# Altium schematic symbol library Atmel_By_element14_Batch_1-00.SCHLIB: 346 symbols (part 4 of 5)
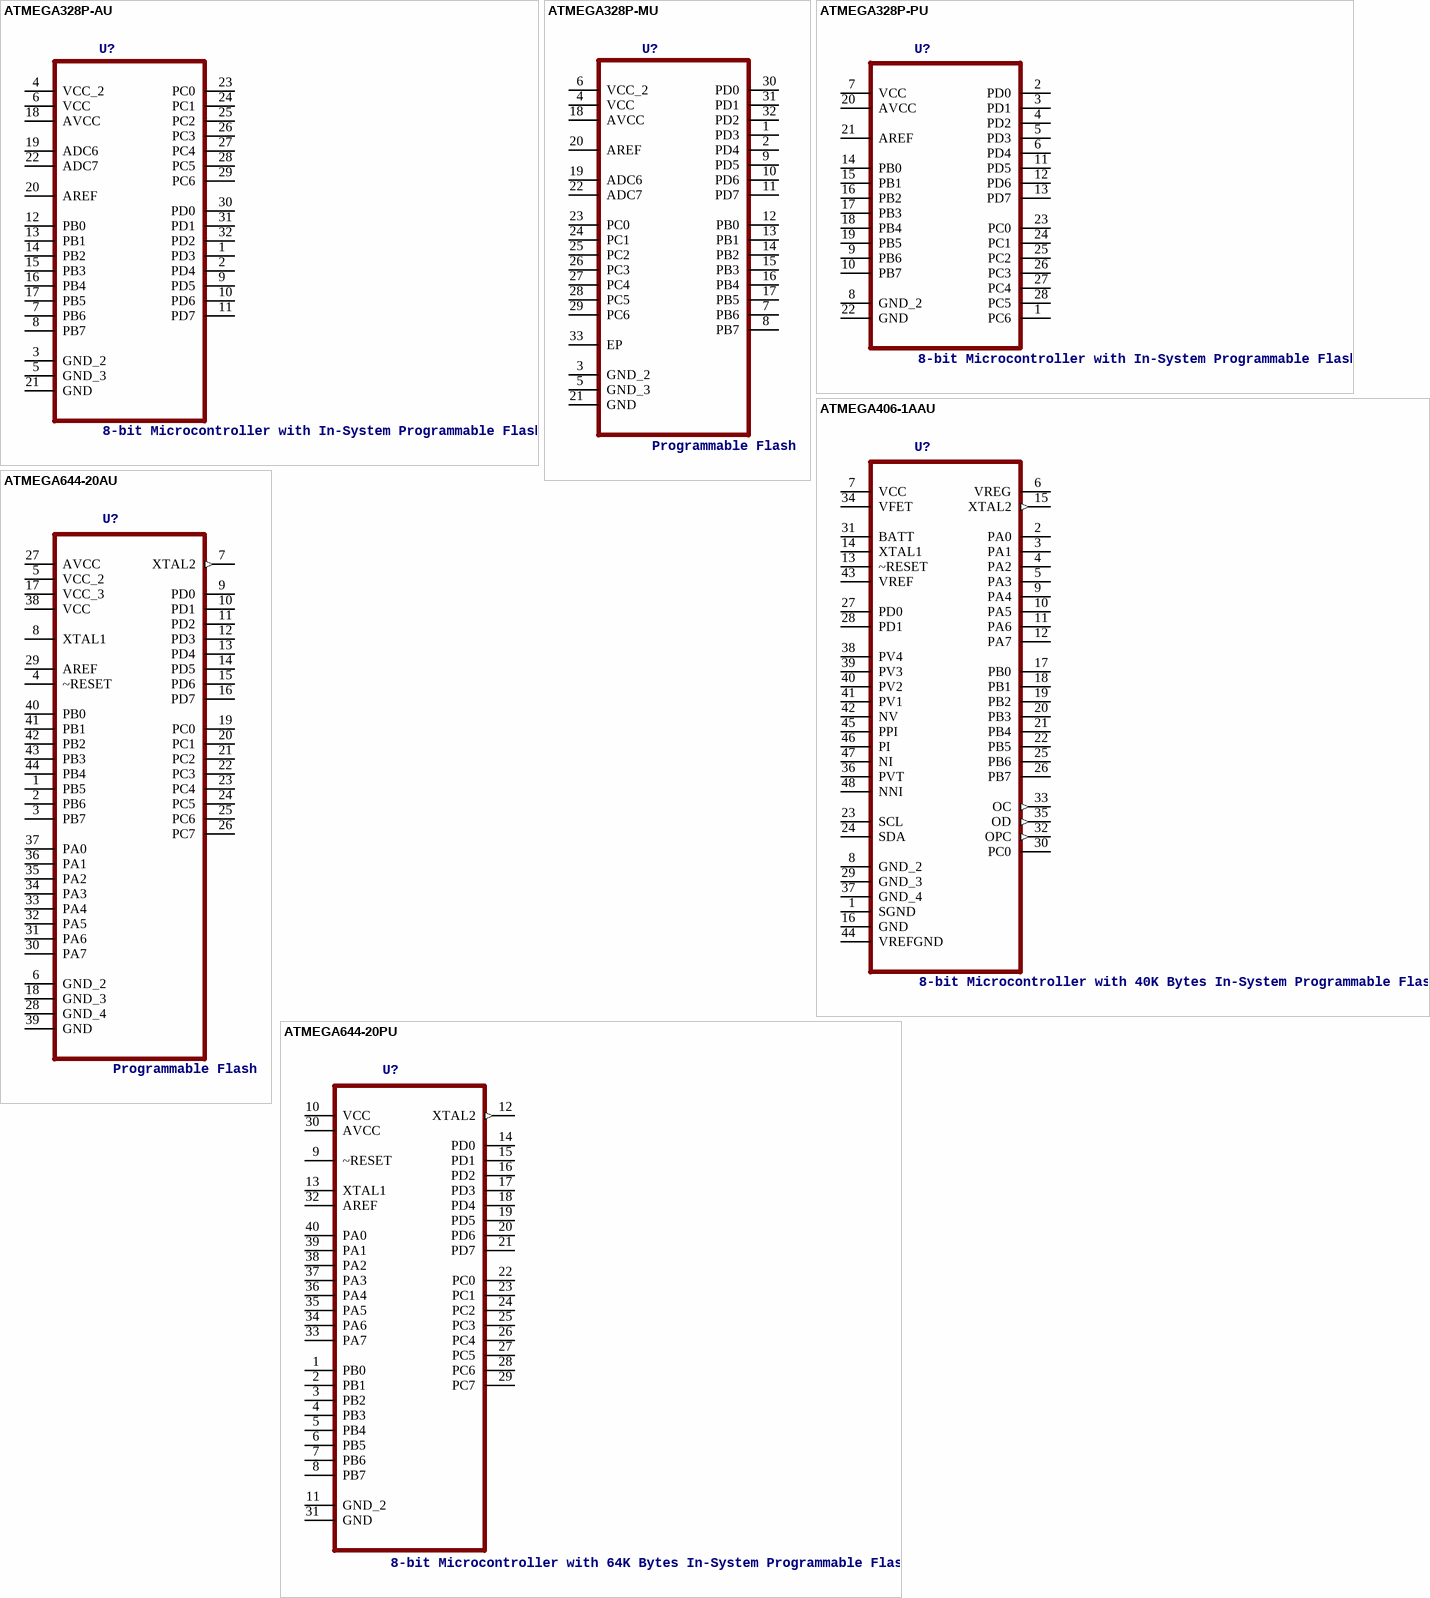
[diagram p53: symbols ATMEGA328P-AU to ATMEGA644-20PU]

## ATMEGA644-20AU
designator U?, comment Programmable Flash
MPN: ATMEGA644-20AU; OC_FARNELL: 1288339; OC_NEWARK: 23M5059; PACKAGE: TQFP-44; SUPPLIER: Atmel
footprint QFP80P1200X1200X120-44N
pins: 1 PB5, 2 PB6, 3 PB7, 4 ~RESET, 5 VCC_2 (power), 6 GND_2, 7 XTAL2 (out), 8 XTAL1, 9 PD0, 10 PD1, 11 PD2, 12 PD3, 13 PD4, 14 PD5, 15 PD6, 16 PD7, 17 VCC_3 (power), 18 GND_3, 19 PC0, 20 PC1, 21 PC2, 22 PC3, 23 PC4, 24 PC5, 25 PC6, 26 PC7, 27 AVCC (power), 28 GND_4, 29 AREF, 30 PA7, 31 PA6, 32 PA5, 33 PA4, 34 PA3, 35 PA2, 36 PA1, 37 PA0, 38 VCC (power), 39 GND, 40 PB0, 41 PB1, 42 PB2, 43 PB3, 44 PB4

## ATMEGA644-20PU
designator U?, comment 8-bit Microcontroller with 64K Bytes In-System Programmable Flash
MPN: ATMEGA644-20PU; OC_FARNELL: 1288340; OC_NEWARK: 23M5060; PACKAGE: DIP-40; SUPPLIER: Atmel
footprint DIP254P1524X482-40
pins: 1 PB0, 2 PB1, 3 PB2, 4 PB3, 5 PB4, 6 PB5, 7 PB6, 8 PB7, 9 ~RESET, 10 VCC (power), 11 GND_2, 12 XTAL2 (out), 13 XTAL1, 14 PD0, 15 PD1, 16 PD2, 17 PD3, 18 PD4, 19 PD5, 20 PD6, 21 PD7, 22 PC0, 23 PC1, 24 PC2, 25 PC3, 26 PC4, 27 PC5, 28 PC6, 29 PC7, 30 AVCC (power), 31 GND, 32 AREF, 33 PA7, 34 PA6, 35 PA5, 36 PA4, 37 PA3, 38 PA2, 39 PA1, 40 PA0

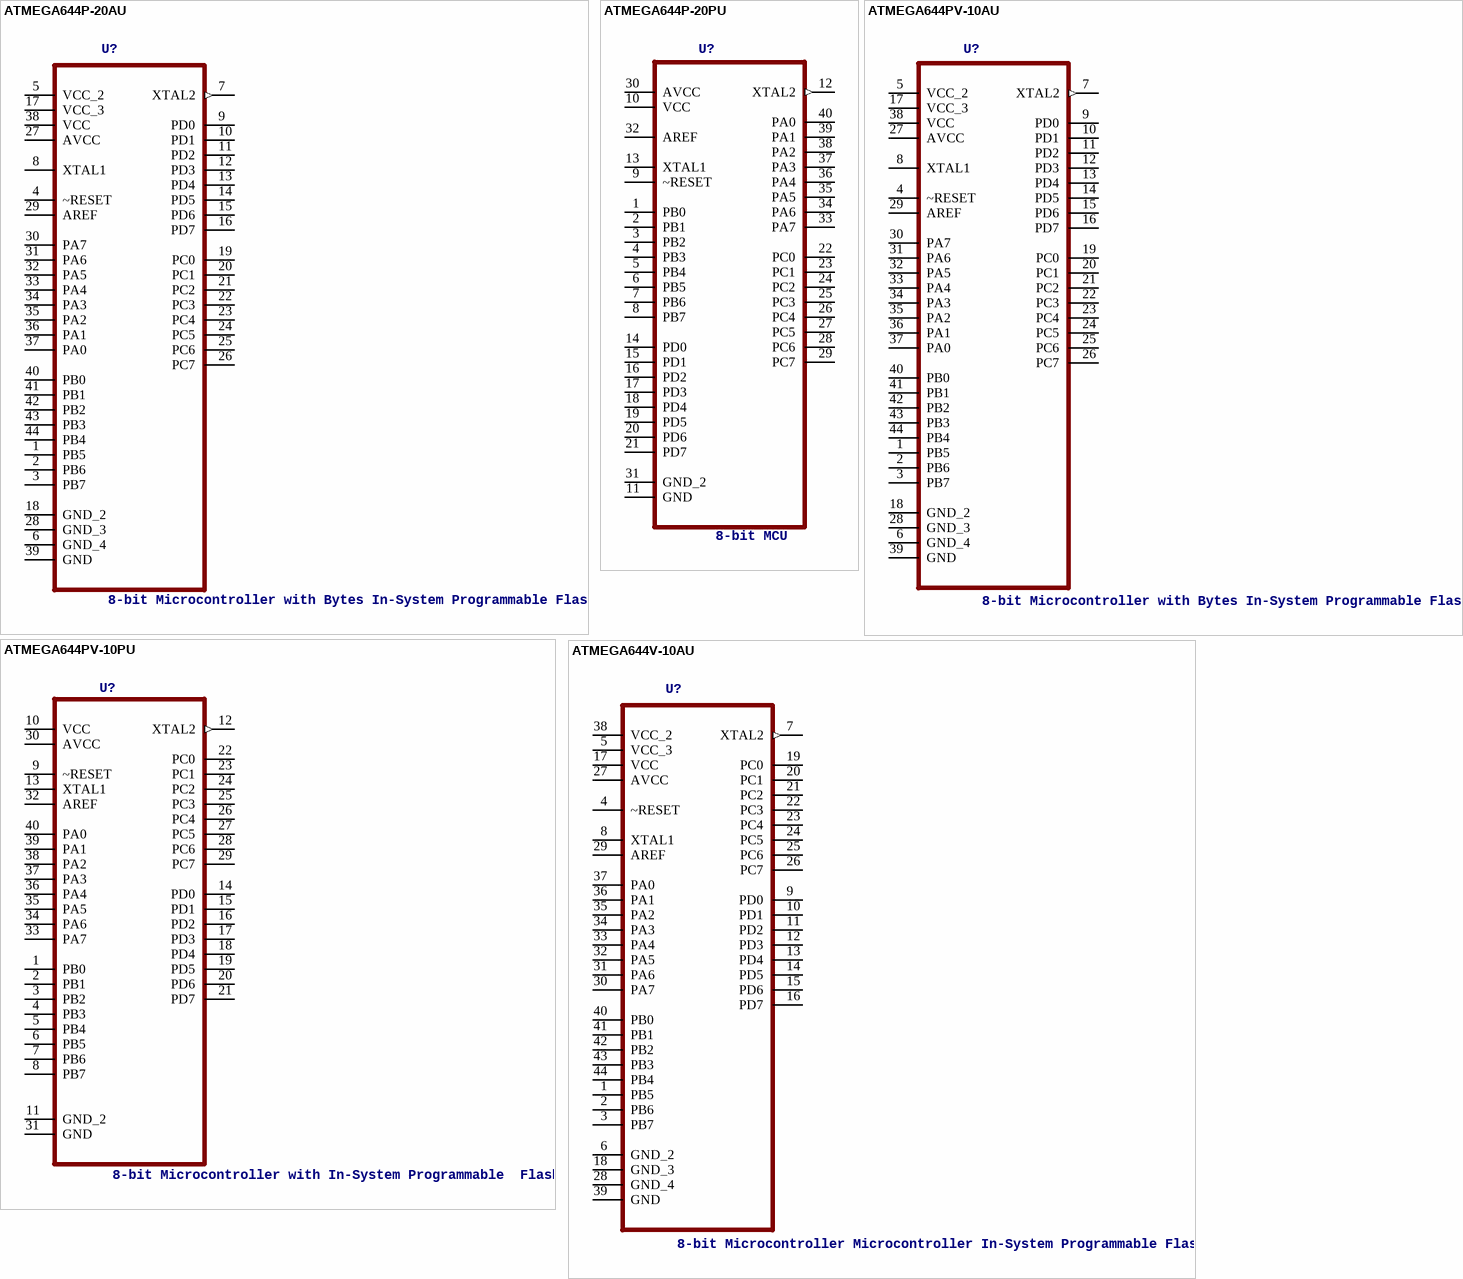
[diagram p36: symbols ATMEGA644P-20AU to ATMEGA644V-10AU]

## ATMEGA644P-20AU
designator U?, comment 8-bit Microcontroller with Bytes In-System Programmable Flash
MPN: ATMEGA644P-20AU; OC_FARNELL: 1455121; OC_NEWARK: 58M3746; PACKAGE: TQFP-44; SUPPLIER: Atmel
footprint QFP80P1200X1200X120-44N
pins: 1 PB5, 2 PB6, 3 PB7, 4 ~RESET, 5 VCC_2 (power), 6 GND_4, 7 XTAL2 (out), 8 XTAL1, 9 PD0, 10 PD1, 11 PD2, 12 PD3, 13 PD4, 14 PD5, 15 PD6, 16 PD7, 17 VCC_3 (power), 18 GND_2, 19 PC0, 20 PC1, 21 PC2, 22 PC3, 23 PC4, 24 PC5, 25 PC6, 26 PC7, 27 AVCC (power), 28 GND_3, 29 AREF, 30 PA7, 31 PA6, 32 PA5, 33 PA4, 34 PA3, 35 PA2, 36 PA1, 37 PA0, 38 VCC (power), 39 GND, 40 PB0, 41 PB1, 42 PB2, 43 PB3, 44 PB4

## ATMEGA644P-20PU
designator U?, comment 8-bit MCU
MPN: ATMEGA644P-20PU; OC_FARNELL: 1455122; OC_NEWARK: 58M3747; PACKAGE: DIP-40; SUPPLIER: Atmel
footprint DIP254P1524X482-40
pins: 1 PB0, 2 PB1, 3 PB2, 4 PB3, 5 PB4, 6 PB5, 7 PB6, 8 PB7, 9 ~RESET, 10 VCC (power), 11 GND, 12 XTAL2 (out), 13 XTAL1, 14 PD0, 15 PD1, 16 PD2, 17 PD3, 18 PD4, 19 PD5, 20 PD6, 21 PD7, 22 PC0, 23 PC1, 24 PC2, 25 PC3, 26 PC4, 27 PC5, 28 PC6, 29 PC7, 30 AVCC (power), 31 GND_2, 32 AREF, 33 PA7, 34 PA6, 35 PA5, 36 PA4, 37 PA3, 38 PA2, 39 PA1, 40 PA0

## ATMEGA644PV-10AU
designator U?, comment 8-bit Microcontroller with Bytes In-System Programmable Flash
MPN: ATMEGA644PV-10AU; OC_FARNELL: 1455123; OC_NEWARK: 58M3748; PACKAGE: TQFP-44; SUPPLIER: Atmel
footprint QFP80P1200X1200X120-44N
pins: 1 PB5, 2 PB6, 3 PB7, 4 ~RESET, 5 VCC_2 (power), 6 GND_4, 7 XTAL2 (out), 8 XTAL1, 9 PD0, 10 PD1, 11 PD2, 12 PD3, 13 PD4, 14 PD5, 15 PD6, 16 PD7, 17 VCC_3 (power), 18 GND_2, 19 PC0, 20 PC1, 21 PC2, 22 PC3, 23 PC4, 24 PC5, 25 PC6, 26 PC7, 27 AVCC (power), 28 GND_3, 29 AREF, 30 PA7, 31 PA6, 32 PA5, 33 PA4, 34 PA3, 35 PA2, 36 PA1, 37 PA0, 38 VCC (power), 39 GND, 40 PB0, 41 PB1, 42 PB2, 43 PB3, 44 PB4

## ATMEGA644PV-10PU
designator U?, comment 8-bit Microcontroller with In-System Programmable  Flash
MPN: ATMEGA644PV-10PU; OC_FARNELL: 1455124; OC_NEWARK: 58M3749; PACKAGE: PDIP-40; SUPPLIER: Atmel
footprint DIP254P1524X483-40
pins: 1 PB0, 2 PB1, 3 PB2, 4 PB3, 5 PB4, 6 PB5, 7 PB6, 8 PB7, 9 ~RESET, 10 VCC (power), 11 GND_2, 12 XTAL2 (out), 13 XTAL1, 14 PD0, 15 PD1, 16 PD2, 17 PD3, 18 PD4, 19 PD5, 20 PD6, 21 PD7, 22 PC0, 23 PC1, 24 PC2, 25 PC3, 26 PC4, 27 PC5, 28 PC6, 29 PC7, 30 AVCC (power), 31 GND, 32 AREF, 33 PA7, 34 PA6, 35 PA5, 36 PA4, 37 PA3, 38 PA2, 39 PA1, 40 PA0

## ATMEGA644V-10AU
designator U?, comment 8-bit Microcontroller Microcontroller In-System Programmable Flash
MPN: ATMEGA644V-10AU; OC_FARNELL: 1288341; OC_NEWARK: 23M5061; PACKAGE: TQFP-44; SUPPLIER: Atmel
footprint QFP80P1200X1200X120-44N
pins: 1 PB5, 2 PB6, 3 PB7, 4 ~RESET, 5 VCC_3 (power), 6 GND_2, 7 XTAL2 (out), 8 XTAL1, 9 PD0, 10 PD1, 11 PD2, 12 PD3, 13 PD4, 14 PD5, 15 PD6, 16 PD7, 17 VCC (power), 18 GND_3, 19 PC0, 20 PC1, 21 PC2, 22 PC3, 23 PC4, 24 PC5, 25 PC6, 26 PC7, 27 AVCC (power), 28 GND_4, 29 AREF, 30 PA7, 31 PA6, 32 PA5, 33 PA4, 34 PA3, 35 PA2, 36 PA1, 37 PA0, 38 VCC_2 (power), 39 GND, 40 PB0, 41 PB1, 42 PB2, 43 PB3, 44 PB4

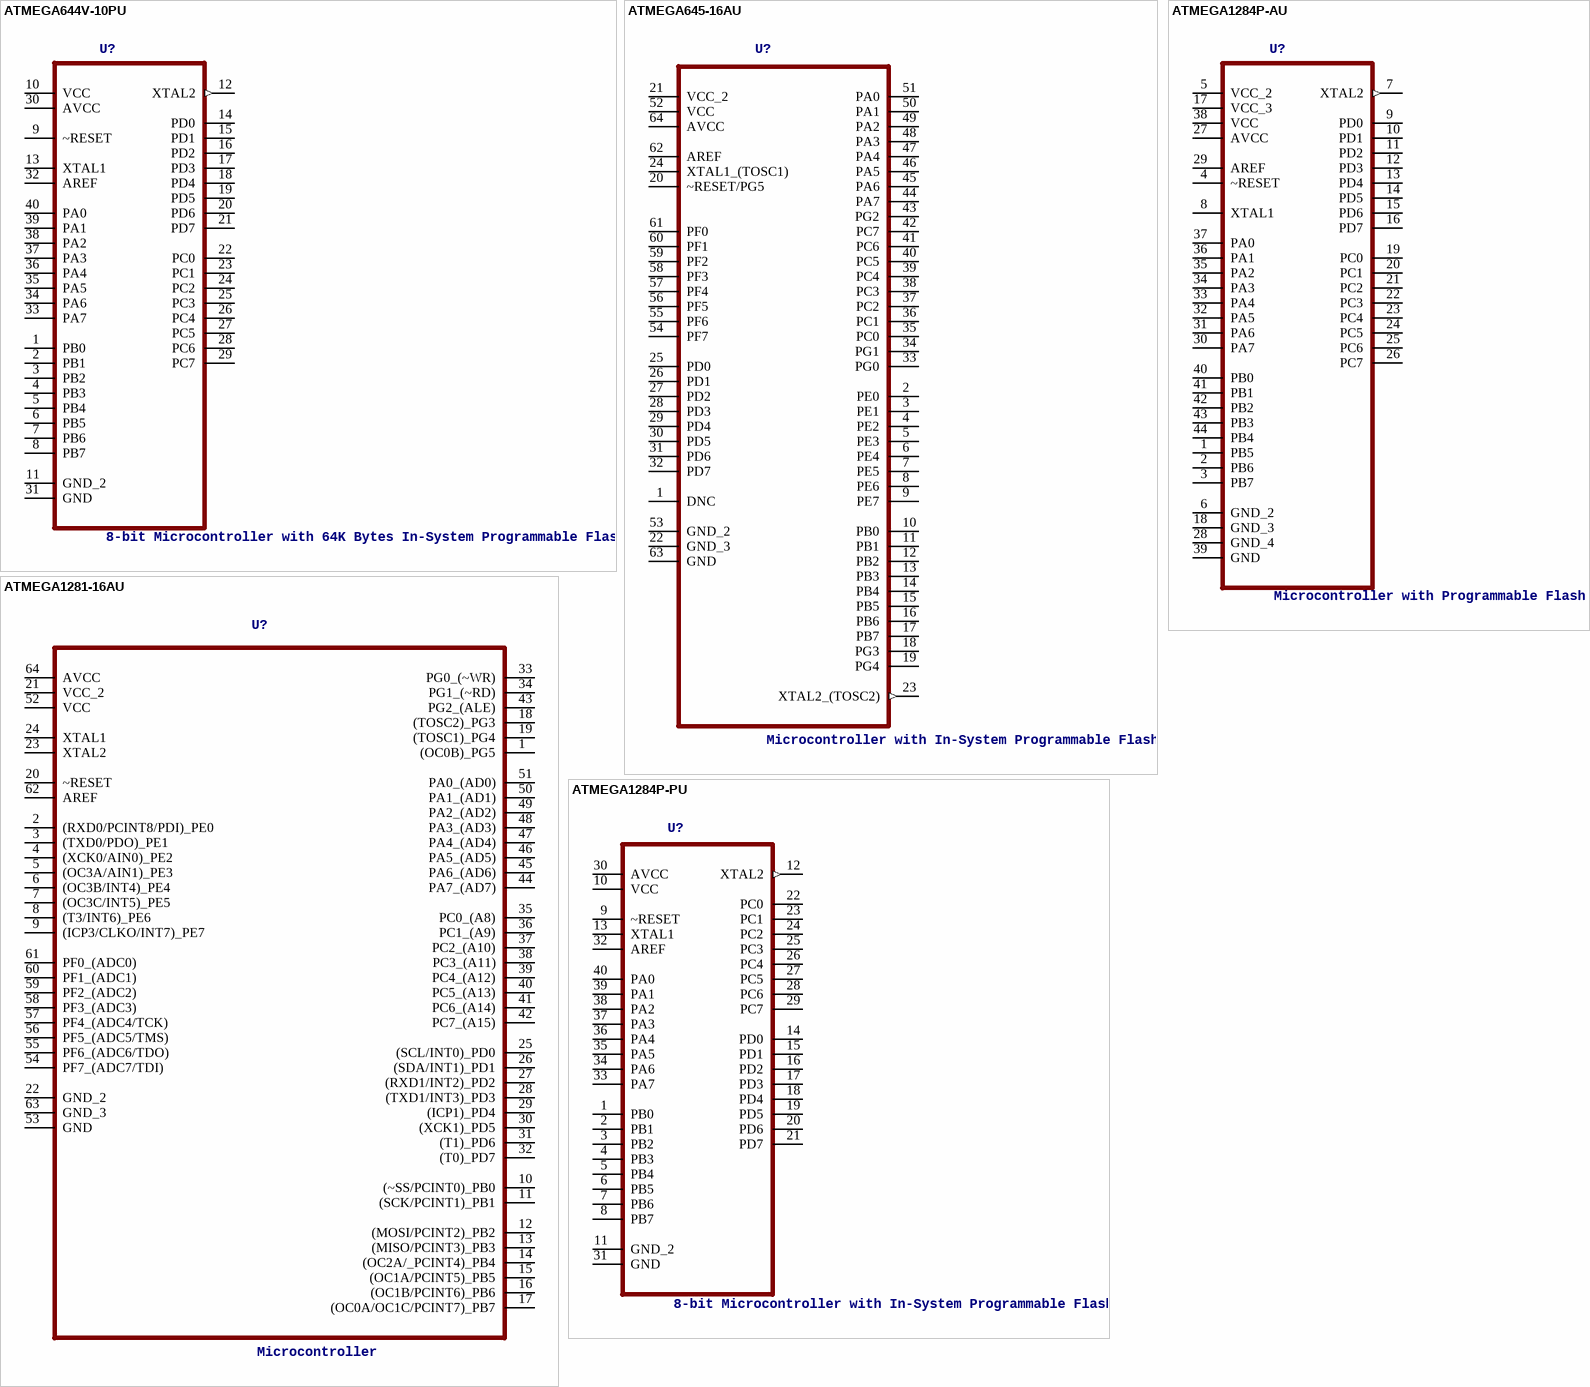
[diagram p37: symbols ATMEGA644V-10PU to ATMEGA1284P-PU]

## ATMEGA644V-10PU
designator U?, comment 8-bit Microcontroller with 64K Bytes In-System Programmable Flash
MPN: ATMEGA644V-10PU; OC_FARNELL: 1288342; OC_NEWARK: 23M5062; PACKAGE: PDIP-40; SUPPLIER: Atmel
footprint DIP254P1524X482-40
pins: 1 PB0, 2 PB1, 3 PB2, 4 PB3, 5 PB4, 6 PB5, 7 PB6, 8 PB7, 9 ~RESET, 10 VCC (power), 11 GND_2, 12 XTAL2 (out), 13 XTAL1, 14 PD0, 15 PD1, 16 PD2, 17 PD3, 18 PD4, 19 PD5, 20 PD6, 21 PD7, 22 PC0, 23 PC1, 24 PC2, 25 PC3, 26 PC4, 27 PC5, 28 PC6, 29 PC7, 30 AVCC (power), 31 GND, 32 AREF, 33 PA7, 34 PA6, 35 PA5, 36 PA4, 37 PA3, 38 PA2, 39 PA1, 40 PA0

## ATMEGA645-16AU
designator U?, comment Microcontroller with In-System Programmable Flash
MPN: ATMEGA645-16AU; OC_FARNELL: 1288345; OC_NEWARK: 23M5063; PACKAGE: TQFP-64; SUPPLIER: Atmel
footprint QFP80P1600X1600X120-64N
pins: 1 DNC, 2 PE0, 3 PE1, 4 PE2, 5 PE3, 6 PE4, 7 PE5, 8 PE6, 9 PE7, 10 PB0, 11 PB1, 12 PB2, 13 PB3, 14 PB4, 15 PB5, 16 PB6, 17 PB7, 18 PG3, 19 PG4, 20 ~RESET/PG5, 21 VCC_2 (power), 22 GND_3, 23 XTAL2_(TOSC2) (out), 24 XTAL1_(TOSC1), 25 PD0, 26 PD1, 27 PD2, 28 PD3, 29 PD4, 30 PD5, 31 PD6, 32 PD7, 33 PG0, 34 PG1, 35 PC0, 36 PC1, 37 PC2, 38 PC3, 39 PC4, 40 PC5, 41 PC6, 42 PC7, 43 PG2, 44 PA7, 45 PA6, 46 PA5, 47 PA4, 48 PA3, 49 PA2, 50 PA1, 51 PA0, 52 VCC (power), 53 GND_2, 54 PF7, 55 PF6, 56 PF5, 57 PF4, 58 PF3, 59 PF2, 60 PF1, 61 PF0, 62 AREF, 63 GND, 64 AVCC (power)

## ATMEGA1281-16AU
designator U?, comment Microcontroller
MPN: ATMEGA1281-16AU; DESCRIPTION: Microcontroller; OC_FARNELL: 1455092; OC_NEWARK: 58M3721; PACKAGE: QFP-64; SUPPLIER: ATMEL
footprint QFP80P1600X1600X120-64N
pins: 1 (OC0B)_PG5, 2 (RXD0/PCINT8/PDI)_PE0, 3 (TXD0/PDO)_PE1, 4 (XCK0/AIN0)_PE2, 5 (OC3A/AIN1)_PE3, 6 (OC3B/INT4)_PE4, 7 (OC3C/INT5)_PE5, 8 (T3/INT6)_PE6, 9 (ICP3/CLKO/INT7)_PE7, 10 (~SS/PCINT0)_PB0, 11 (SCK/PCINT1)_PB1, 12 (MOSI/PCINT2)_PB2, 13 (MISO/PCINT3)_PB3, 14 (OC2A/_PCINT4)_PB4, 15 (OC1A/PCINT5)_PB5, 16 (OC1B/PCINT6)_PB6, 17 (OC0A/OC1C/PCINT7)_PB7, 18 (TOSC2)_PG3, 19 (TOSC1)_PG4, 20 ~RESET, 21 VCC_2 (power), 22 GND_2, 23 XTAL2, 24 XTAL1, 25 (SCL/INT0)_PD0, 26 (SDA/INT1)_PD1, 27 (RXD1/INT2)_PD2, 28 (TXD1/INT3)_PD3, 29 (ICP1)_PD4, 30 (XCK1)_PD5, 31 (T1)_PD6, 32 (T0)_PD7, 33 PG0_(~WR), 34 PG1_(~RD), 35 PC0_(A8), 36 PC1_(A9), 37 PC2_(A10), 38 PC3_(A11), 39 PC4_(A12), 40 PC5_(A13), 41 PC6_(A14), 42 PC7_(A15), 43 PG2_(ALE), 44 PA7_(AD7), 45 PA6_(AD6), 46 PA5_(AD5), 47 PA4_(AD4), 48 PA3_(AD3), 49 PA2_(AD2), 50 PA1_(AD1), 51 PA0_(AD0), 52 VCC (power), 53 GND, 54 PF7_(ADC7/TDI), 55 PF6_(ADC6/TDO), 56 PF5_(ADC5/TMS), 57 PF4_(ADC4/TCK), 58 PF3_(ADC3), 59 PF2_(ADC2), 60 PF1_(ADC1), 61 PF0_(ADC0), 62 AREF, 63 GND_3, 64 AVCC (power)

## ATMEGA1284P-AU
designator U?, comment Microcontroller with Programmable Flash
MPN: ATMEGA1284P-AU; OC_FARNELL: 1715480; OC_NEWARK: 15R0263; PACKAGE: TQFP-44; SUPPLIER: Atmel
footprint QFP80P1200X1200X120-44N
pins: 1 PB5, 2 PB6, 3 PB7, 4 ~RESET, 5 VCC_2 (power), 6 GND_2, 7 XTAL2 (out), 8 XTAL1, 9 PD0, 10 PD1, 11 PD2, 12 PD3, 13 PD4, 14 PD5, 15 PD6, 16 PD7, 17 VCC_3 (power), 18 GND_3, 19 PC0, 20 PC1, 21 PC2, 22 PC3, 23 PC4, 24 PC5, 25 PC6, 26 PC7, 27 AVCC (power), 28 GND_4, 29 AREF, 30 PA7, 31 PA6, 32 PA5, 33 PA4, 34 PA3, 35 PA2, 36 PA1, 37 PA0, 38 VCC (power), 39 GND, 40 PB0, 41 PB1, 42 PB2, 43 PB3, 44 PB4

## ATMEGA1284P-PU
designator U?, comment 8-bit Microcontroller with In-System Programmable Flash
MPN: ATMEGA1284P-PU; OC_FARNELL: 1715481; OC_NEWARK: 15R0264; PACKAGE: PDIP-40; SUPPLIER: Atmel
footprint DIP254P1524X483-40
pins: 1 PB0, 2 PB1, 3 PB2, 4 PB3, 5 PB4, 6 PB5, 7 PB6, 8 PB7, 9 ~RESET, 10 VCC (power), 11 GND_2, 12 XTAL2 (out), 13 XTAL1, 14 PD0, 15 PD1, 16 PD2, 17 PD3, 18 PD4, 19 PD5, 20 PD6, 21 PD7, 22 PC0, 23 PC1, 24 PC2, 25 PC3, 26 PC4, 27 PC5, 28 PC6, 29 PC7, 30 AVCC (power), 31 GND, 32 AREF, 33 PA7, 34 PA6, 35 PA5, 36 PA4, 37 PA3, 38 PA2, 39 PA1, 40 PA0

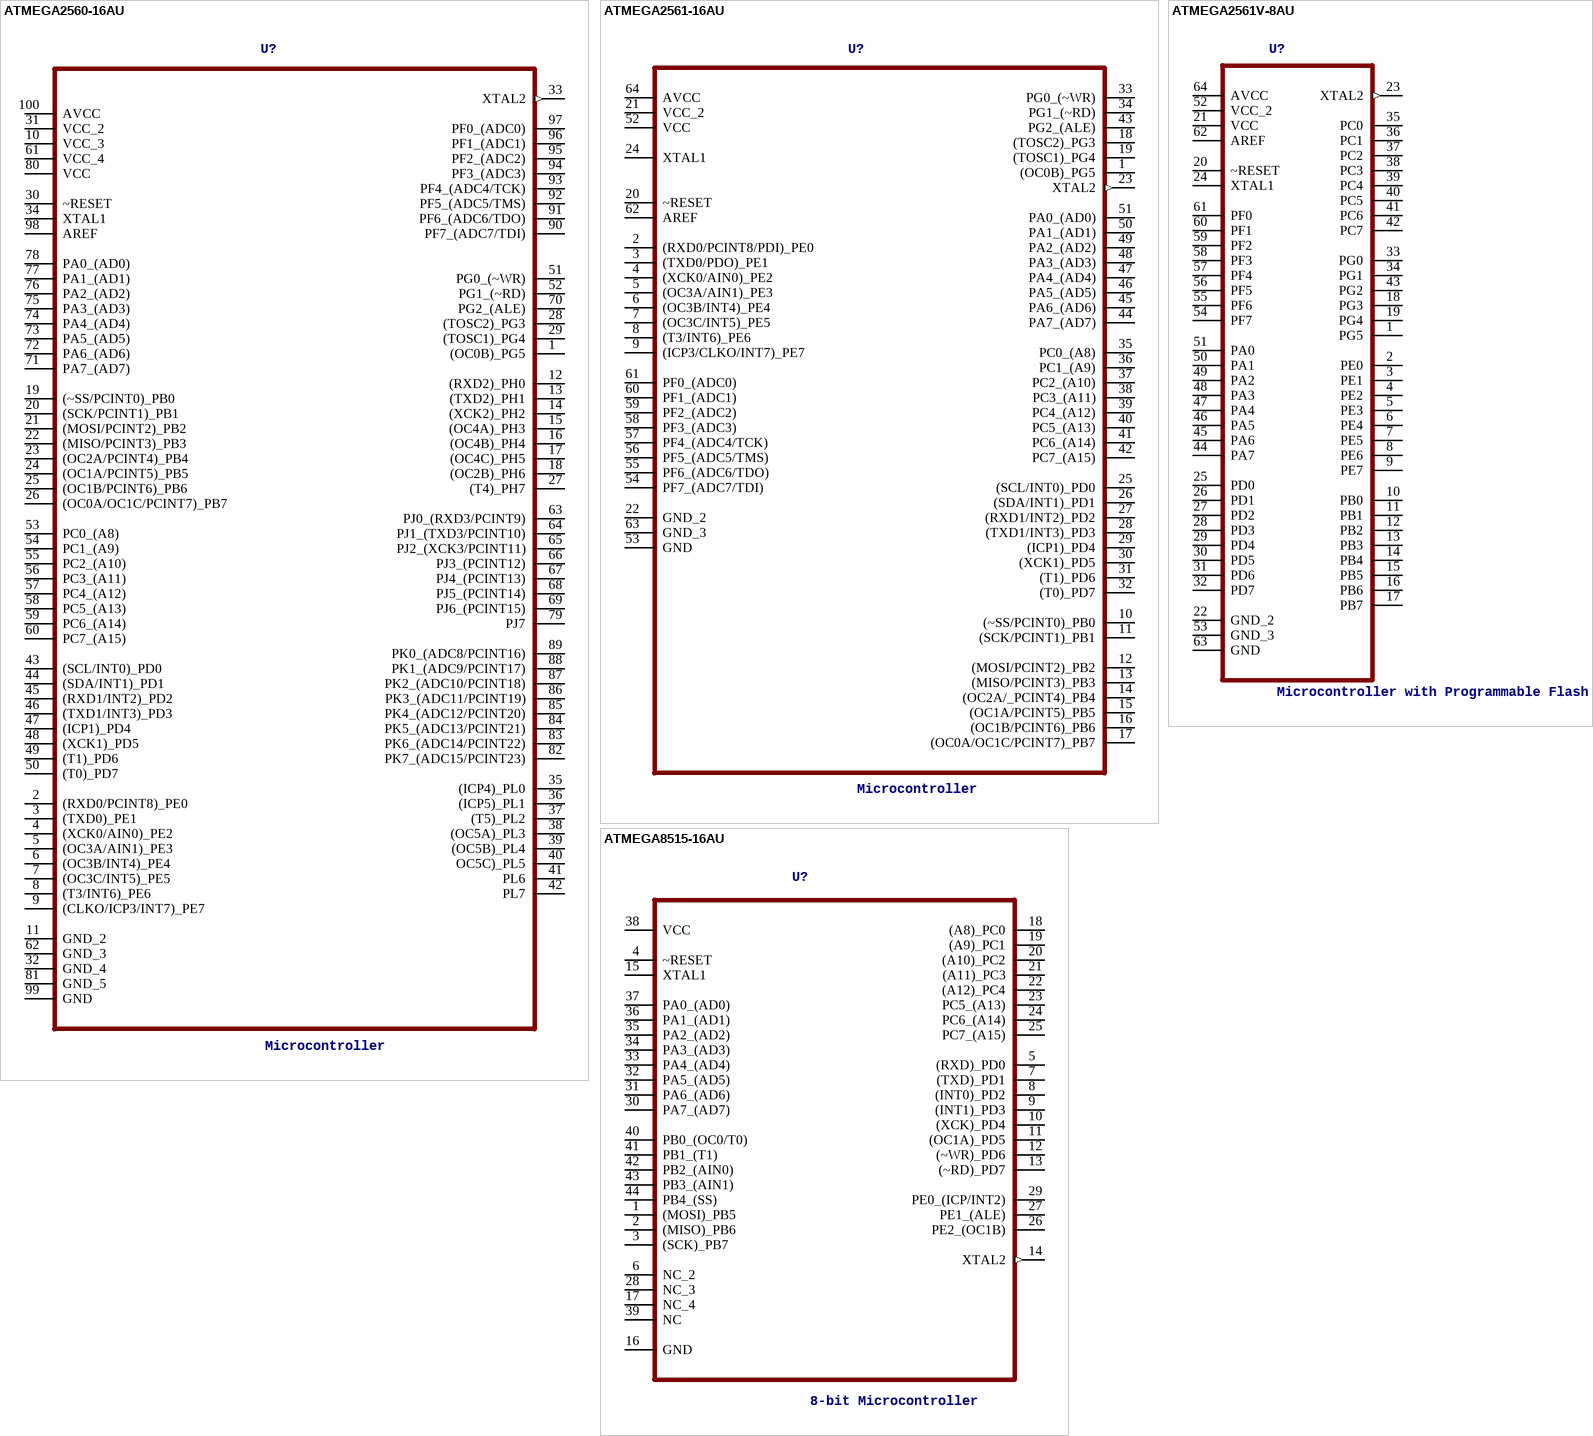
[diagram p38: symbols ATMEGA2560-16AU to ATMEGA8515-16AU]

## ATMEGA2560-16AU
designator U?, comment Microcontroller
MPN: ATMEGA2560-16AU; DESCRIPTION: Microcontroller; OC_FARNELL: 1288330; OC_NEWARK: 23M5051; PACKAGE: LQFP-100; SUPPLIER: ATMEL
footprint QFP50P1600X1600X120-100N
pins: 1 (OC0B)_PG5, 2 (RXD0/PCINT8)_PE0, 3 (TXD0)_PE1, 4 (XCK0/AIN0)_PE2, 5 (OC3A/AIN1)_PE3, 6 (OC3B/INT4)_PE4, 7 (OC3C/INT5)_PE5, 8 (T3/INT6)_PE6, 9 (CLKO/ICP3/INT7)_PE7, 10 VCC_3 (power), 11 GND_2, 12 (RXD2)_PH0, 13 (TXD2)_PH1, 14 (XCK2)_PH2, 15 (OC4A)_PH3, 16 (OC4B)_PH4, 17 (OC4C)_PH5, 18 (OC2B)_PH6, 19 (~SS/PCINT0)_PB0, 20 (SCK/PCINT1)_PB1, 21 (MOSI/PCINT2)_PB2, 22 (MISO/PCINT3)_PB3, 23 (OC2A/PCINT4)_PB4, 24 (OC1A/PCINT5)_PB5, 25 (OC1B/PCINT6)_PB6, 26 (OC0A/OC1C/PCINT7)_PB7, 27 (T4)_PH7, 28 (TOSC2)_PG3, 29 (TOSC1)_PG4, 30 ~RESET, 31 VCC_2 (power), 32 GND_4, 33 XTAL2 (out), 34 XTAL1, 35 (ICP4)_PL0, 36 (ICP5)_PL1, 37 (T5)_PL2, 38 (OC5A)_PL3, 39 (OC5B)_PL4, 40 OC5C)_PL5, 41 PL6, 42 PL7, 43 (SCL/INT0)_PD0, 44 (SDA/INT1)_PD1, 45 (RXD1/INT2)_PD2, 46 (TXD1/INT3)_PD3, 47 (ICP1)_PD4, 48 (XCK1)_PD5, 49 (T1)_PD6, 50 (T0)_PD7, 51 PG0_(~WR), 52 PG1_(~RD), 53 PC0_(A8), 54 PC1_(A9), 55 PC2_(A10), 56 PC3_(A11), 57 PC4_(A12), 58 PC5_(A13), 59 PC6_(A14), 60 PC7_(A15), 61 VCC_4 (power), 62 GND_3, 63 PJ0_(RXD3/PCINT9), 64 PJ1_(TXD3/PCINT10), 65 PJ2_(XCK3/PCINT11), 66 PJ3_(PCINT12), 67 PJ4_(PCINT13), 68 PJ5_(PCINT14), 69 PJ6_(PCINT15), 70 PG2_(ALE), 71 PA7_(AD7), 72 PA6_(AD6), 73 PA5_(AD5), 74 PA4_(AD4), 75 PA3_(AD3), 76 PA2_(AD2), 77 PA1_(AD1), 78 PA0_(AD0), 79 PJ7, 80 VCC (power), 81 GND_5, 82 PK7_(ADC15/PCINT23), 83 PK6_(ADC14/PCINT22), 84 PK5_(ADC13/PCINT21), 85 PK4_(ADC12/PCINT20), 86 PK3_(ADC11/PCINT19), 87 PK2_(ADC10/PCINT18), 88 PK1_(ADC9/PCINT17), 89 PK0_(ADC8/PCINT16), 90 PF7_(ADC7/TDI), 91 PF6_(ADC6/TDO), 92 PF5_(ADC5/TMS), 93 PF4_(ADC4/TCK), 94 PF3_(ADC3), 95 PF2_(ADC2), 96 PF1_(ADC1), 97 PF0_(ADC0), 98 AREF, 99 GND, 100 AVCC (power)

## ATMEGA2561-16AU
designator U?, comment Microcontroller
MPN: ATMEGA2561-16AU; DESCRIPTION: Microcontroller; OC_FARNELL: 1288332; OC_NEWARK: 23M5053; PACKAGE: QFP-64; SUPPLIER: ATMEL
footprint QFP80P1600X1600X120-64N
pins: 1 (OC0B)_PG5, 2 (RXD0/PCINT8/PDI)_PE0, 3 (TXD0/PDO)_PE1, 4 (XCK0/AIN0)_PE2, 5 (OC3A/AIN1)_PE3, 6 (OC3B/INT4)_PE4, 7 (OC3C/INT5)_PE5, 8 (T3/INT6)_PE6, 9 (ICP3/CLKO/INT7)_PE7, 10 (~SS/PCINT0)_PB0, 11 (SCK/PCINT1)_PB1, 12 (MOSI/PCINT2)_PB2, 13 (MISO/PCINT3)_PB3, 14 (OC2A/_PCINT4)_PB4, 15 (OC1A/PCINT5)_PB5, 16 (OC1B/PCINT6)_PB6, 17 (OC0A/OC1C/PCINT7)_PB7, 18 (TOSC2)_PG3, 19 (TOSC1)_PG4, 20 ~RESET, 21 VCC_2 (power), 22 GND_2, 23 XTAL2 (out), 24 XTAL1, 25 (SCL/INT0)_PD0, 26 (SDA/INT1)_PD1, 27 (RXD1/INT2)_PD2, 28 (TXD1/INT3)_PD3, 29 (ICP1)_PD4, 30 (XCK1)_PD5, 31 (T1)_PD6, 32 (T0)_PD7, 33 PG0_(~WR), 34 PG1_(~RD), 35 PC0_(A8), 36 PC1_(A9), 37 PC2_(A10), 38 PC3_(A11), 39 PC4_(A12), 40 PC5_(A13), 41 PC6_(A14), 42 PC7_(A15), 43 PG2_(ALE), 44 PA7_(AD7), 45 PA6_(AD6), 46 PA5_(AD5), 47 PA4_(AD4), 48 PA3_(AD3), 49 PA2_(AD2), 50 PA1_(AD1), 51 PA0_(AD0), 52 VCC (power), 53 GND, 54 PF7_(ADC7/TDI), 55 PF6_(ADC6/TDO), 56 PF5_(ADC5/TMS), 57 PF4_(ADC4/TCK), 58 PF3_(ADC3), 59 PF2_(ADC2), 60 PF1_(ADC1), 61 PF0_(ADC0), 62 AREF, 63 GND_3, 64 AVCC (power)

## ATMEGA2561V-8AU
designator U?, comment Microcontroller with Programmable Flash
MPN: ATMEGA2561V-8AU; OC_FARNELL: 1288333; OC_NEWARK: 23M5054; PACKAGE: TQFP-64; SUPPLIER: Atmel
footprint QFP80P1600X1600X120-64N
pins: 1 PG5, 2 PE0, 3 PE1, 4 PE2, 5 PE3, 6 PE4, 7 PE5, 8 PE6, 9 PE7, 10 PB0, 11 PB1, 12 PB2, 13 PB3, 14 PB4, 15 PB5, 16 PB6, 17 PB7, 18 PG3, 19 PG4, 20 ~RESET, 21 VCC (power), 22 GND_2, 23 XTAL2 (out), 24 XTAL1, 25 PD0, 26 PD1, 27 PD2, 28 PD3, 29 PD4, 30 PD5, 31 PD6, 32 PD7, 33 PG0, 34 PG1, 35 PC0, 36 PC1, 37 PC2, 38 PC3, 39 PC4, 40 PC5, 41 PC6, 42 PC7, 43 PG2, 44 PA7, 45 PA6, 46 PA5, 47 PA4, 48 PA3, 49 PA2, 50 PA1, 51 PA0, 52 VCC_2 (power), 53 GND_3, 54 PF7, 55 PF6, 56 PF5, 57 PF4, 58 PF3, 59 PF2, 60 PF1, 61 PF0, 62 AREF, 63 GND, 64 AVCC (power)

## ATMEGA8515-16AU
designator U?, comment 8-bit Microcontroller
MPN: ATMEGA8515-16AU; DESCRIPTION: 8-bit Microcontroller; OC_FARNELL: 9171398; OC_NEWARK: 01M6904; PACKAGE: QFP-44; SUPPLIER: Atmel
footprint QFP80P1200X1200X120-44N
pins: 1 (MOSI)_PB5, 2 (MISO)_PB6, 3 (SCK)_PB7, 4 ~RESET, 5 (RXD)_PD0, 6 NC_2, 7 (TXD)_PD1, 8 (INT0)_PD2, 9 (INT1)_PD3, 10 (XCK)_PD4, 11 (OC1A)_PD5, 12 (~WR)_PD6, 13 (~RD)_PD7, 14 XTAL2 (out), 15 XTAL1, 16 GND, 17 NC_4, 18 (A8)_PC0, 19 (A9)_PC1, 20 (A10)_PC2, 21 (A11)_PC3, 22 (A12)_PC4, 23 PC5_(A13), 24 PC6_(A14), 25 PC7_(A15), 26 PE2_(OC1B), 27 PE1_(ALE) (power), 28 NC_3, 29 PE0_(ICP/INT2), 30 PA7_(AD7), 31 PA6_(AD6), 32 PA5_(AD5), 33 PA4_(AD4), 34 PA3_(AD3), 35 PA2_(AD2), 36 PA1_(AD1), 37 PA0_(AD0), 38 VCC (power), 39 NC, 40 PB0_(OC0/T0), 41 PB1_(T1), 42 PB2_(AIN0), 43 PB3_(AIN1), 44 PB4_(SS)

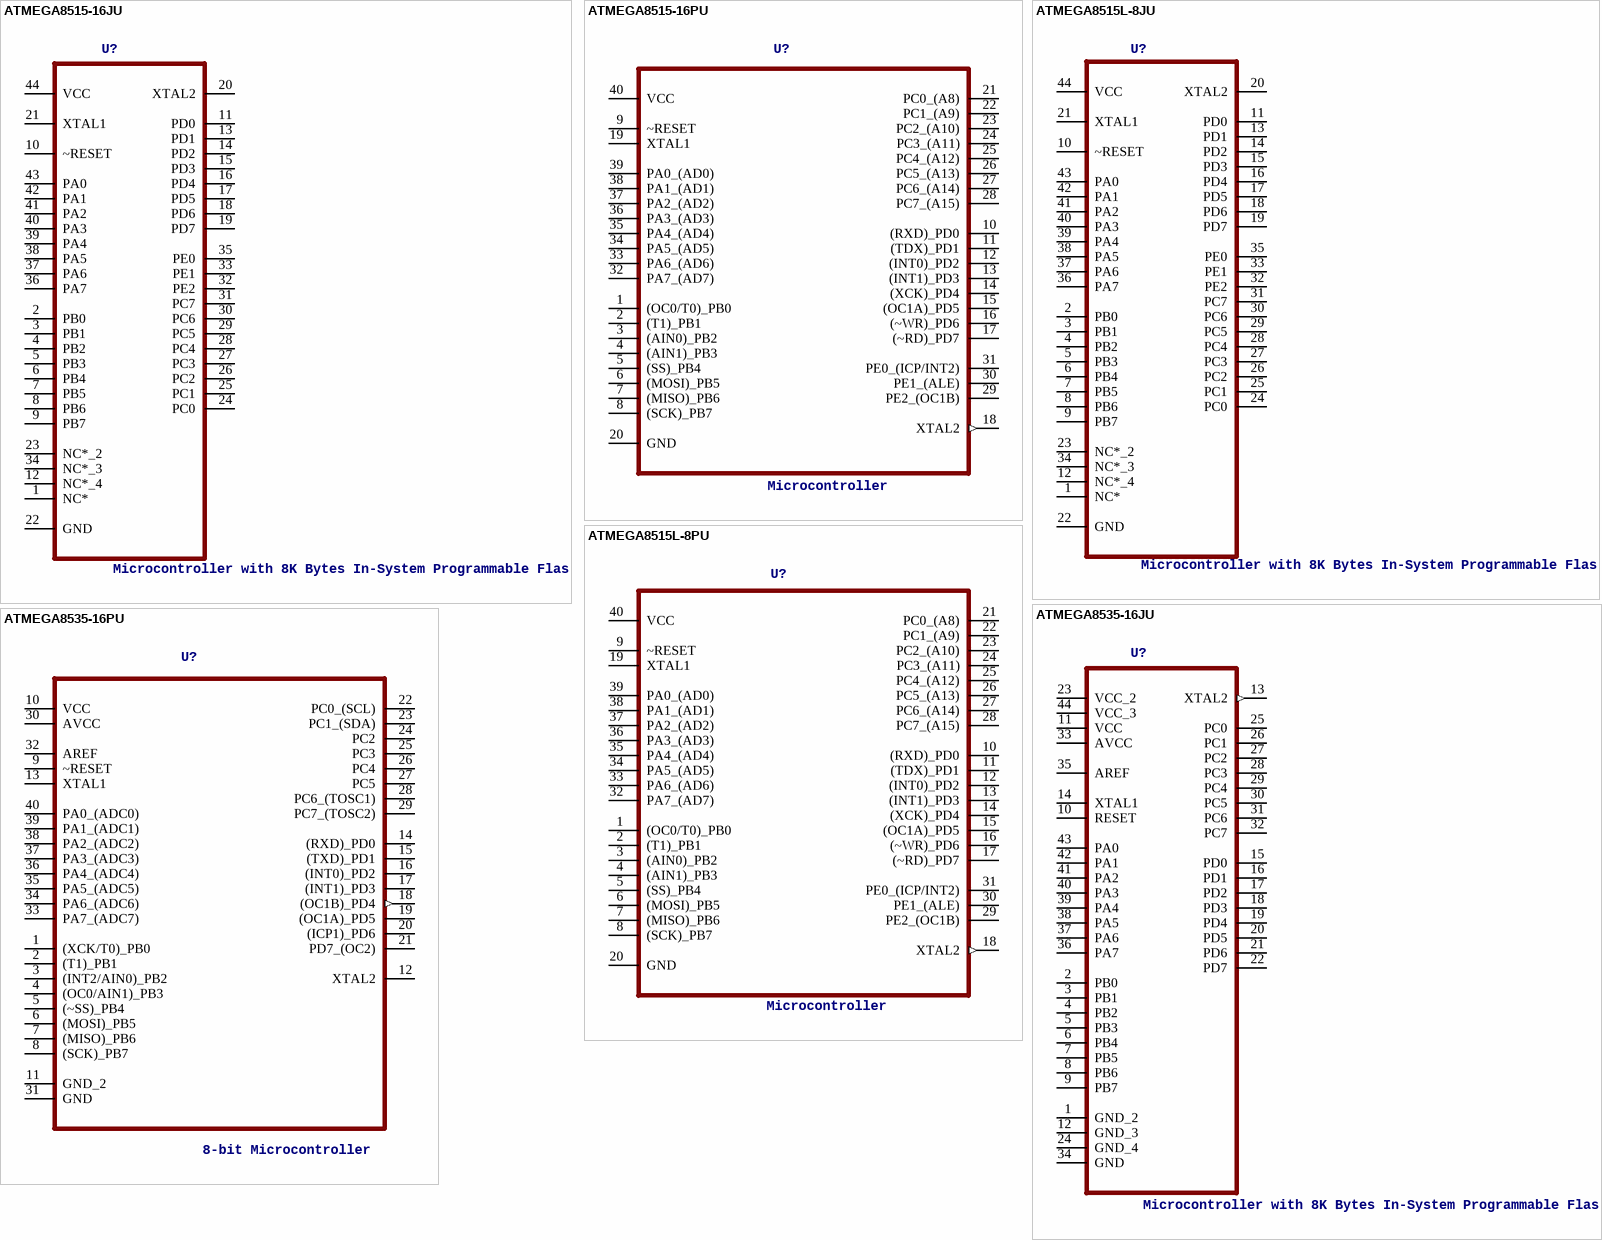
[diagram p39: symbols ATMEGA8515-16JU to ATMEGA8535-16PU]

## ATMEGA8515-16JU
designator U?, comment Microcontroller with 8K Bytes In-System Programmable Flash
MPN: ATMEGA8515-16JU; OC_FARNELL: 1562624; OC_NEWARK: 94M6261; PACKAGE: PLCC-44; SUPPLIER: Atmel
footprint PLCC127P1752X1752X457-44N
pins: 1 NC*, 2 PB0, 3 PB1, 4 PB2, 5 PB3, 6 PB4, 7 PB5, 8 PB6, 9 PB7, 10 ~RESET, 11 PD0, 12 NC*_4, 13 PD1, 14 PD2, 15 PD3, 16 PD4, 17 PD5, 18 PD6, 19 PD7, 20 XTAL2, 21 XTAL1, 22 GND, 23 NC*_2, 24 PC0, 25 PC1, 26 PC2, 27 PC3, 28 PC4, 29 PC5, 30 PC6, 31 PC7, 32 PE2, 33 PE1, 34 NC*_3, 35 PE0, 36 PA7, 37 PA6, 38 PA5, 39 PA4, 40 PA3, 41 PA2, 42 PA1, 43 PA0, 44 VCC (power)

## ATMEGA8515-16PU
designator U?, comment Microcontroller
MPN: ATMEGA8515-16PU; DESCRIPTION: Microcontroller; OC_FARNELL: 9171401; OC_NEWARK: 01M6905; PACKAGE: DIP-40; SUPPLIER: ATMEL
footprint DIP254P1524X482-40
pins: 1 (OC0/T0)_PB0, 2 (T1)_PB1, 3 (AIN0)_PB2, 4 (AIN1)_PB3, 5 (SS)_PB4, 6 (MOSI)_PB5, 7 (MISO)_PB6, 8 (SCK)_PB7, 9 ~RESET, 10 (RXD)_PD0, 11 (TDX)_PD1, 12 (INT0)_PD2, 13 (INT1)_PD3, 14 (XCK)_PD4, 15 (OC1A)_PD5, 16 (~WR)_PD6, 17 (~RD)_PD7, 18 XTAL2 (out), 19 XTAL1, 20 GND, 21 PC0_(A8), 22 PC1_(A9), 23 PC2_(A10), 24 PC3_(A11), 25 PC4_(A12), 26 PC5_(A13), 27 PC6_(A14), 28 PC7_(A15), 29 PE2_(OC1B), 30 PE1_(ALE), 31 PE0_(ICP/INT2), 32 PA7_(AD7), 33 PA6_(AD6), 34 PA5_(AD5), 35 PA4_(AD4), 36 PA3_(AD3), 37 PA2_(AD2), 38 PA1_(AD1), 39 PA0_(AD0), 40 VCC (power)

## ATMEGA8515L-8JU
designator U?, comment Microcontroller with 8K Bytes In-System Programmable Flash
MPN: ATMEGA8515L-8JU; OC_FARNELL: 1562624; OC_NEWARK: 94M6262; PACKAGE: PLCC-44; SUPPLIER: Atmel
footprint PLCC127P1752X1752X457-44N
pins: 1 NC*, 2 PB0, 3 PB1, 4 PB2, 5 PB3, 6 PB4, 7 PB5, 8 PB6, 9 PB7, 10 ~RESET, 11 PD0, 12 NC*_4, 13 PD1, 14 PD2, 15 PD3, 16 PD4, 17 PD5, 18 PD6, 19 PD7, 20 XTAL2, 21 XTAL1, 22 GND, 23 NC*_2, 24 PC0, 25 PC1, 26 PC2, 27 PC3, 28 PC4, 29 PC5, 30 PC6, 31 PC7, 32 PE2, 33 PE1, 34 NC*_3, 35 PE0, 36 PA7, 37 PA6, 38 PA5, 39 PA4, 40 PA3, 41 PA2, 42 PA1, 43 PA0, 44 VCC (power)

## ATMEGA8515L-8PU
designator U?, comment Microcontroller
MPN: ATMEGA8515L-8PU; DESCRIPTION: Microcontroller; OC_FARNELL: 9171428; OC_NEWARK: 01M6907; PACKAGE: DIP-40; SUPPLIER: ATMEL
footprint DIP254P1524X482-40
pins: 1 (OC0/T0)_PB0, 2 (T1)_PB1, 3 (AIN0)_PB2, 4 (AIN1)_PB3, 5 (SS)_PB4, 6 (MOSI)_PB5, 7 (MISO)_PB6, 8 (SCK)_PB7, 9 ~RESET, 10 (RXD)_PD0, 11 (TDX)_PD1, 12 (INT0)_PD2, 13 (INT1)_PD3, 14 (XCK)_PD4, 15 (OC1A)_PD5, 16 (~WR)_PD6, 17 (~RD)_PD7, 18 XTAL2 (out), 19 XTAL1, 20 GND, 21 PC0_(A8), 22 PC1_(A9), 23 PC2_(A10), 24 PC3_(A11), 25 PC4_(A12), 26 PC5_(A13), 27 PC6_(A14), 28 PC7_(A15), 29 PE2_(OC1B), 30 PE1_(ALE), 31 PE0_(ICP/INT2), 32 PA7_(AD7), 33 PA6_(AD6), 34 PA5_(AD5), 35 PA4_(AD4), 36 PA3_(AD3), 37 PA2_(AD2), 38 PA1_(AD1), 39 PA0_(AD0), 40 VCC (power)

## ATMEGA8535-16JU
designator U?, comment Microcontroller with 8K Bytes In-System Programmable Flash
MPN: ATMEGA8535-16JU; OC_FARNELL: 1562626; OC_NEWARK: 94M6263; PACKAGE: PLCC-44; SUPPLIER: Atmel
footprint PLCC127P1752X1752X457-44N
pins: 1 GND_2, 2 PB0, 3 PB1, 4 PB2, 5 PB3, 6 PB4, 7 PB5, 8 PB6, 9 PB7, 10 RESET, 11 VCC (power), 12 GND_3, 13 XTAL2 (out), 14 XTAL1, 15 PD0, 16 PD1, 17 PD2, 18 PD3, 19 PD4, 20 PD5, 21 PD6, 22 PD7, 23 VCC_2 (power), 24 GND_4, 25 PC0, 26 PC1, 27 PC2, 28 PC3, 29 PC4, 30 PC5, 31 PC6, 32 PC7, 33 AVCC (power), 34 GND, 35 AREF, 36 PA7, 37 PA6, 38 PA5, 39 PA4, 40 PA3, 41 PA2, 42 PA1, 43 PA0, 44 VCC_3 (power)

## ATMEGA8535-16PU
designator U?, comment 8-bit Microcontroller
MPN: ATMEGA8535-16PU; DESCRIPTION: 8-bit Microcontroller; OC_FARNELL: 9171444; OC_NEWARK: 01M6909; PACKAGE: DIP-40; SUPPLIER: Atmel
footprint DIP254P1524X482-40
pins: 1 (XCK/T0)_PB0, 2 (T1)_PB1, 3 (INT2/AIN0)_PB2, 4 (OC0/AIN1)_PB3, 5 (~SS)_PB4, 6 (MOSI)_PB5, 7 (MISO)_PB6, 8 (SCK)_PB7, 9 ~RESET, 10 VCC, 11 GND_2, 12 XTAL2, 13 XTAL1, 14 (RXD)_PD0, 15 (TXD)_PD1, 16 (INT0)_PD2, 17 (INT1)_PD3, 18 (OC1B)_PD4 (out), 19 (OC1A)_PD5, 20 (ICP1)_PD6, 21 PD7_(OC2), 22 PC0_(SCL), 23 PC1_(SDA), 24 PC2, 25 PC3, 26 PC4, 27 PC5, 28 PC6_(TOSC1), 29 PC7_(TOSC2), 30 AVCC (power), 31 GND, 32 AREF, 33 PA7_(ADC7), 34 PA6_(ADC6), 35 PA5_(ADC5), 36 PA4_(ADC4), 37 PA3_(ADC3), 38 PA2_(ADC2), 39 PA1_(ADC1), 40 PA0_(ADC0)

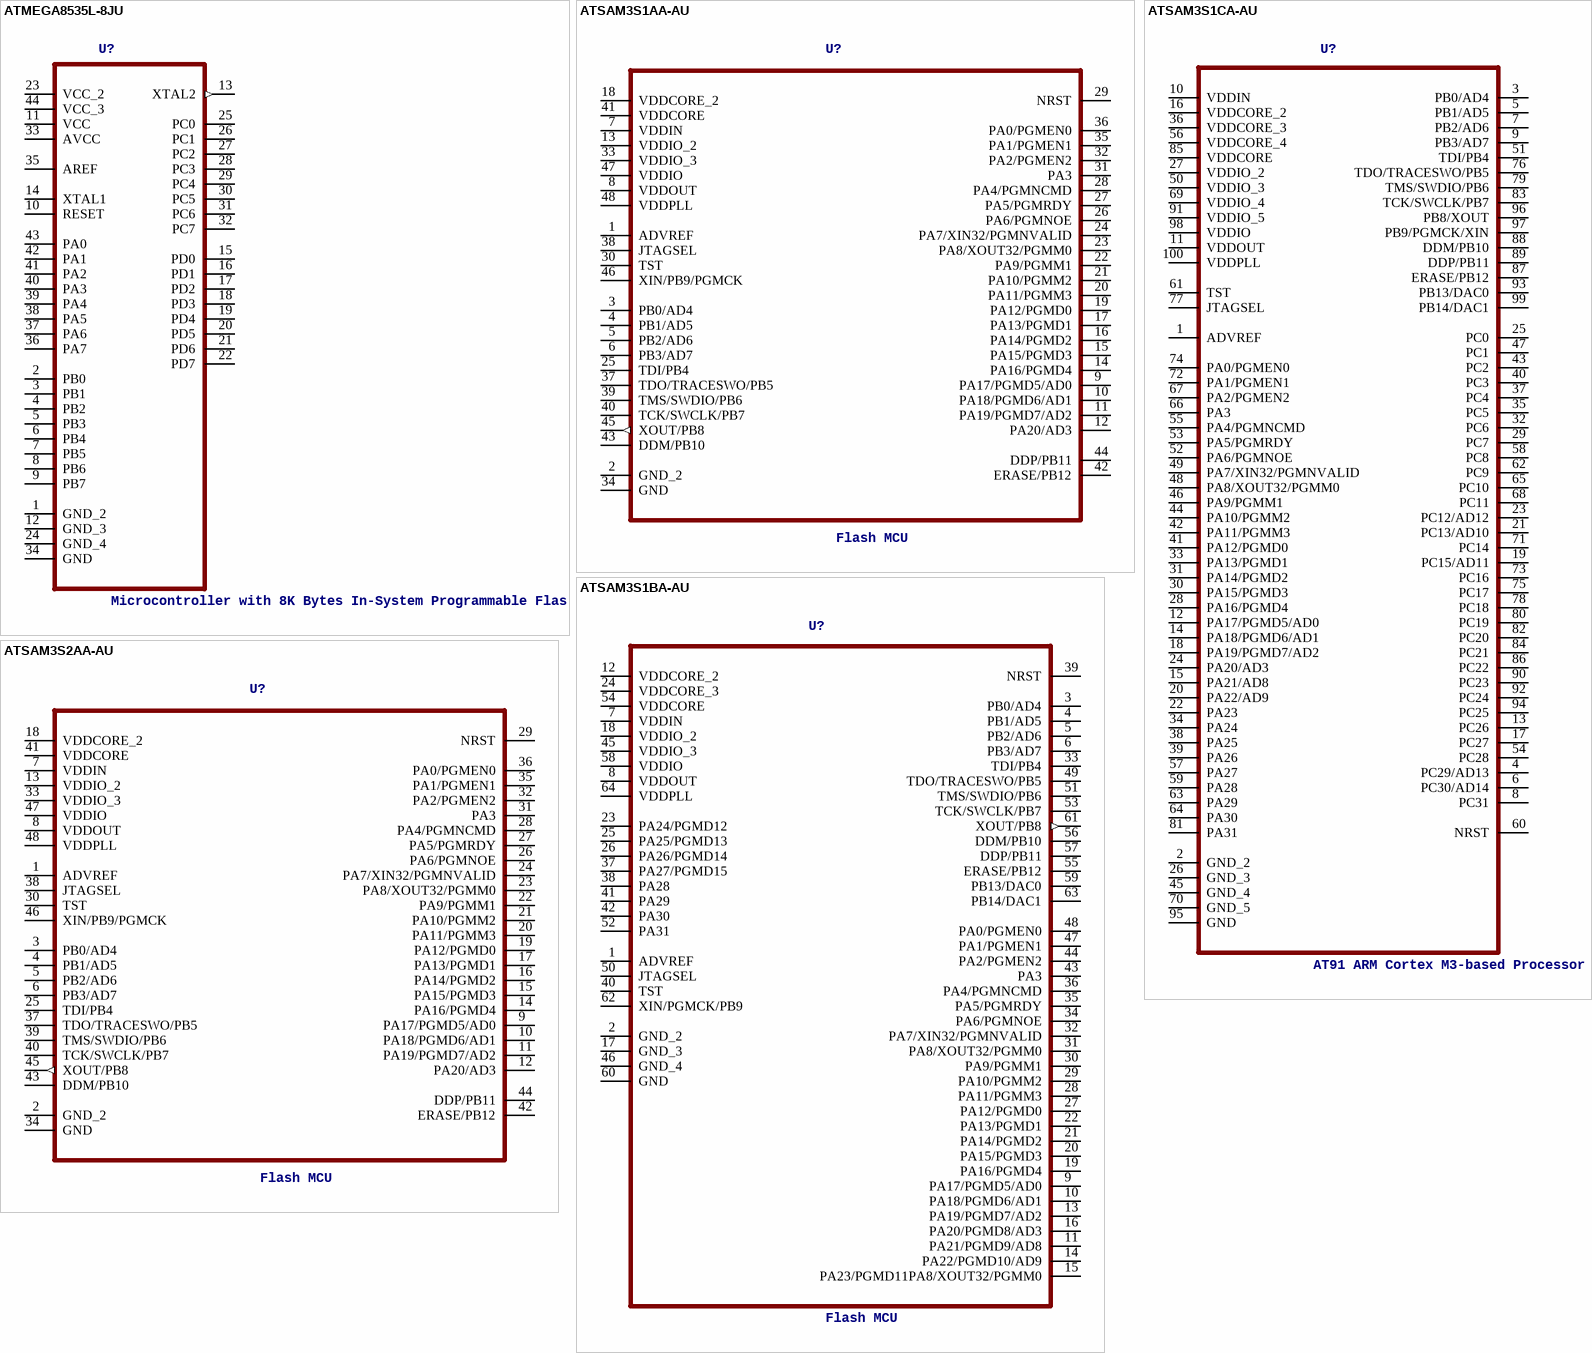
[diagram p40: symbols ATMEGA8535L-8JU to ATSAM3S2AA-AU]

## ATMEGA8535L-8JU
designator U?, comment Microcontroller with 8K Bytes In-System Programmable Flash
MPN: ATMEGA8535L-8JU; OC_FARNELL: 1562627; OC_NEWARK: 94M6264; PACKAGE: PLCC-44; SUPPLIER: Atmel
footprint PLCC127P1752X1752X457-44N
pins: 1 GND_2, 2 PB0, 3 PB1, 4 PB2, 5 PB3, 6 PB4, 7 PB5, 8 PB6, 9 PB7, 10 RESET, 11 VCC (power), 12 GND_3, 13 XTAL2 (out), 14 XTAL1, 15 PD0, 16 PD1, 17 PD2, 18 PD3, 19 PD4, 20 PD5, 21 PD6, 22 PD7, 23 VCC_2 (power), 24 GND_4, 25 PC0, 26 PC1, 27 PC2, 28 PC3, 29 PC4, 30 PC5, 31 PC6, 32 PC7, 33 AVCC (power), 34 GND, 35 AREF, 36 PA7, 37 PA6, 38 PA5, 39 PA4, 40 PA3, 41 PA2, 42 PA1, 43 PA0, 44 VCC_3 (power)

## ATSAM3S1AA-AU
designator U?, comment Flash MCU
MPN: ATSAM3S1AA-AU; DESCRIPTION: Flash MCU; OC_FARNELL: 1841649; OC_NEWARK: 12T1307; PACKAGE: QFP-48; SUPPLIER: Atmel
footprint QFP50P900X900X160-48N
pins: 1 ADVREF, 2 GND_2, 3 PB0/AD4, 4 PB1/AD5, 5 PB2/AD6, 6 PB3/AD7, 7 VDDIN (power), 8 VDDOUT (power), 9 PA17/PGMD5/AD0, 10 PA18/PGMD6/AD1, 11 PA19/PGMD7/AD2, 12 PA20/AD3, 13 VDDIO_2 (power), 14 PA16/PGMD4, 15 PA15/PGMD3, 16 PA14/PGMD2, 17 PA13/PGMD1, 18 VDDCORE_2 (power), 19 PA12/PGMD0, 20 PA11/PGMM3, 21 PA10/PGMM2, 22 PA9/PGMM1, 23 PA8/XOUT32/PGMM0, 24 PA7/XIN32/PGMNVALID, 25 TDI/PB4, 26 PA6/PGMNOE, 27 PA5/PGMRDY, 28 PA4/PGMNCMD, 29 NRST, 30 TST, 31 PA3, 32 PA2/PGMEN2, 33 VDDIO_3 (power), 34 GND, 35 PA1/PGMEN1, 36 PA0/PGMEN0, 37 TDO/TRACESWO/PB5, 38 JTAGSEL, 39 TMS/SWDIO/PB6, 40 TCK/SWCLK/PB7, 41 VDDCORE (power), 42 ERASE/PB12, 43 DDM/PB10, 44 DDP/PB11, 45 XOUT/PB8 (out), 46 XIN/PB9/PGMCK, 47 VDDIO (power), 48 VDDPLL (power)

## ATSAM3S1BA-AU
designator U?, comment Flash MCU
MPN: ATSAM3S1BA-AU; DESCRIPTION: Flash MCU; OC_FARNELL: 1841650; OC_NEWARK: 12T1308; PACKAGE: QFP-64; SUPPLIER: Atmel
footprint QFP50P1200X1200X160-64N
pins: 1 ADVREF, 2 GND_2, 3 PB0/AD4, 4 PB1/AD5, 5 PB2/AD6, 6 PB3/AD7, 7 VDDIN (power), 8 VDDOUT (power), 9 PA17/PGMD5/AD0, 10 PA18/PGMD6/AD1, 11 PA21/PGMD9/AD8, 12 VDDCORE_2 (power), 13 PA19/PGMD7/AD2, 14 PA22/PGMD10/AD9, 15 PA23/PGMD11PA8/XOUT32/PGMM0, 16 PA20/PGMD8/AD3, 17 GND_3, 18 VDDIO_2 (power), 19 PA16/PGMD4, 20 PA15/PGMD3, 21 PA14/PGMD2, 22 PA13/PGMD1, 23 PA24/PGMD12, 24 VDDCORE_3 (power), 25 PA25/PGMD13, 26 PA26/PGMD14, 27 PA12/PGMD0, 28 PA11/PGMM3, 29 PA10/PGMM2, 30 PA9/PGMM1, 31 PA8/XOUT32/PGMM0, 32 PA7/XIN32/PGMNVALID, 33 TDI/PB4, 34 PA6/PGMNOE, 35 PA5/PGMRDY, 36 PA4/PGMNCMD, 37 PA27/PGMD15, 38 PA28, 39 NRST, 40 TST, 41 PA29, 42 PA30, 43 PA3, 44 PA2/PGMEN2, 45 VDDIO_3 (power), 46 GND_4, 47 PA1/PGMEN1, 48 PA0/PGMEN0, 49 TDO/TRACESWO/PB5, 50 JTAGSEL, 51 TMS/SWDIO/PB6, 52 PA31, 53 TCK/SWCLK/PB7, 54 VDDCORE (power), 55 ERASE/PB12, 56 DDM/PB10, 57 DDP/PB11, 58 VDDIO (power), 59 PB13/DAC0, 60 GND, 61 XOUT/PB8 (out), 62 XIN/PGMCK/PB9, 63 PB14/DAC1, 64 VDDPLL (power)

## ATSAM3S1CA-AU
designator U?, comment AT91 ARM Cortex M3-based Processor
MPN: ATSAM3S1CA-AU; DESCRIPTION: AT91 ARM Cortex M3-based Processor; OC_FARNELL: 1841651; OC_NEWARK: 12T1309; PACKAGE: LQFP-100; SUPPLIER: Atmel Corporation
footprint QFP50P1600X1600X160-100N
pins: 1 ADVREF, 2 GND_2, 3 PB0/AD4, 4 PC29/AD13, 5 PB1/AD5, 6 PC30/AD14, 7 PB2/AD6, 8 PC31, 9 PB3/AD7, 10 VDDIN (power), 11 VDDOUT (power), 12 PA17/PGMD5/AD0, 13 PC26, 14 PA18/PGMD6/AD1, 15 PA21/AD8, 16 VDDCORE_2 (power), 17 PC27, 18 PA19/PGMD7/AD2, 19 PC15/AD11, 20 PA22/AD9, 21 PC13/AD10, 22 PA23, 23 PC12/AD12, 24 PA20/AD3, 25 PC0, 26 GND_3, 27 VDDIO_2 (power), 28 PA16/PGMD4, 29 PC7, 30 PA15/PGMD3, 31 PA14/PGMD2, 32 PC6, 33 PA13/PGMD1, 34 PA24, 35 PC5, 36 VDDCORE_3 (power), 37 PC4, 38 PA25, 39 PA26, 40 PC3, 41 PA12/PGMD0, 42 PA11/PGMM3, 43 PC2, 44 PA10/PGMM2, 45 GND_4, 46 PA9/PGMM1, 47 PC1, 48 PA8/XOUT32/PGMM0, 49 PA7/XIN32/PGMNVALID, 50 VDDIO_3 (power), 51 TDI/PB4, 52 PA6/PGMNOE, 53 PA5/PGMRDY, 54 PC28, 55 PA4/PGMNCMD, 56 VDDCORE_4 (power), 57 PA27, 58 PC8, 59 PA28, 60 NRST, 61 TST, 62 PC9, 63 PA29, 64 PA30, 65 PC10, 66 PA3, 67 PA2/PGMEN2, 68 PC11, 69 VDDIO_4 (power), 70 GND_5, 71 PC14, 72 PA1/PGMEN1, 73 PC16, 74 PA0/PGMEN0, 75 PC17, 76 TDO/TRACESWO/PB5, 77 JTAGSEL, 78 PC18, 79 TMS/SWDIO/PB6, 80 PC19, 81 PA31, 82 PC20, 83 TCK/SWCLK/PB7, 84 PC21, 85 VDDCORE (power), 86 PC22, 87 ERASE/PB12, 88 DDM/PB10, 89 DDP/PB11, 90 PC23, 91 VDDIO_5 (power), 92 PC24, 93 PB13/DAC0, 94 PC25, 95 GND, 96 PB8/XOUT, 97 PB9/PGMCK/XIN, 98 VDDIO (power), 99 PB14/DAC1, 100 VDDPLL (power)

## ATSAM3S2AA-AU
designator U?, comment Flash MCU
MPN: ATSAM3S2AA-AU; DESCRIPTION: Flash MCU; OC_FARNELL: 1841652; OC_NEWARK: 12T1310; PACKAGE: QFP-48; SUPPLIER: Atmel
footprint QFP50P900X900X160-48N
pins: 1 ADVREF, 2 GND_2, 3 PB0/AD4, 4 PB1/AD5, 5 PB2/AD6, 6 PB3/AD7, 7 VDDIN (power), 8 VDDOUT (power), 9 PA17/PGMD5/AD0, 10 PA18/PGMD6/AD1, 11 PA19/PGMD7/AD2, 12 PA20/AD3, 13 VDDIO_2 (power), 14 PA16/PGMD4, 15 PA15/PGMD3, 16 PA14/PGMD2, 17 PA13/PGMD1, 18 VDDCORE_2 (power), 19 PA12/PGMD0, 20 PA11/PGMM3, 21 PA10/PGMM2, 22 PA9/PGMM1, 23 PA8/XOUT32/PGMM0, 24 PA7/XIN32/PGMNVALID, 25 TDI/PB4, 26 PA6/PGMNOE, 27 PA5/PGMRDY, 28 PA4/PGMNCMD, 29 NRST, 30 TST, 31 PA3, 32 PA2/PGMEN2, 33 VDDIO_3 (power), 34 GND, 35 PA1/PGMEN1, 36 PA0/PGMEN0, 37 TDO/TRACESWO/PB5, 38 JTAGSEL, 39 TMS/SWDIO/PB6, 40 TCK/SWCLK/PB7, 41 VDDCORE (power), 42 ERASE/PB12, 43 DDM/PB10, 44 DDP/PB11, 45 XOUT/PB8 (out), 46 XIN/PB9/PGMCK, 47 VDDIO (power), 48 VDDPLL (power)

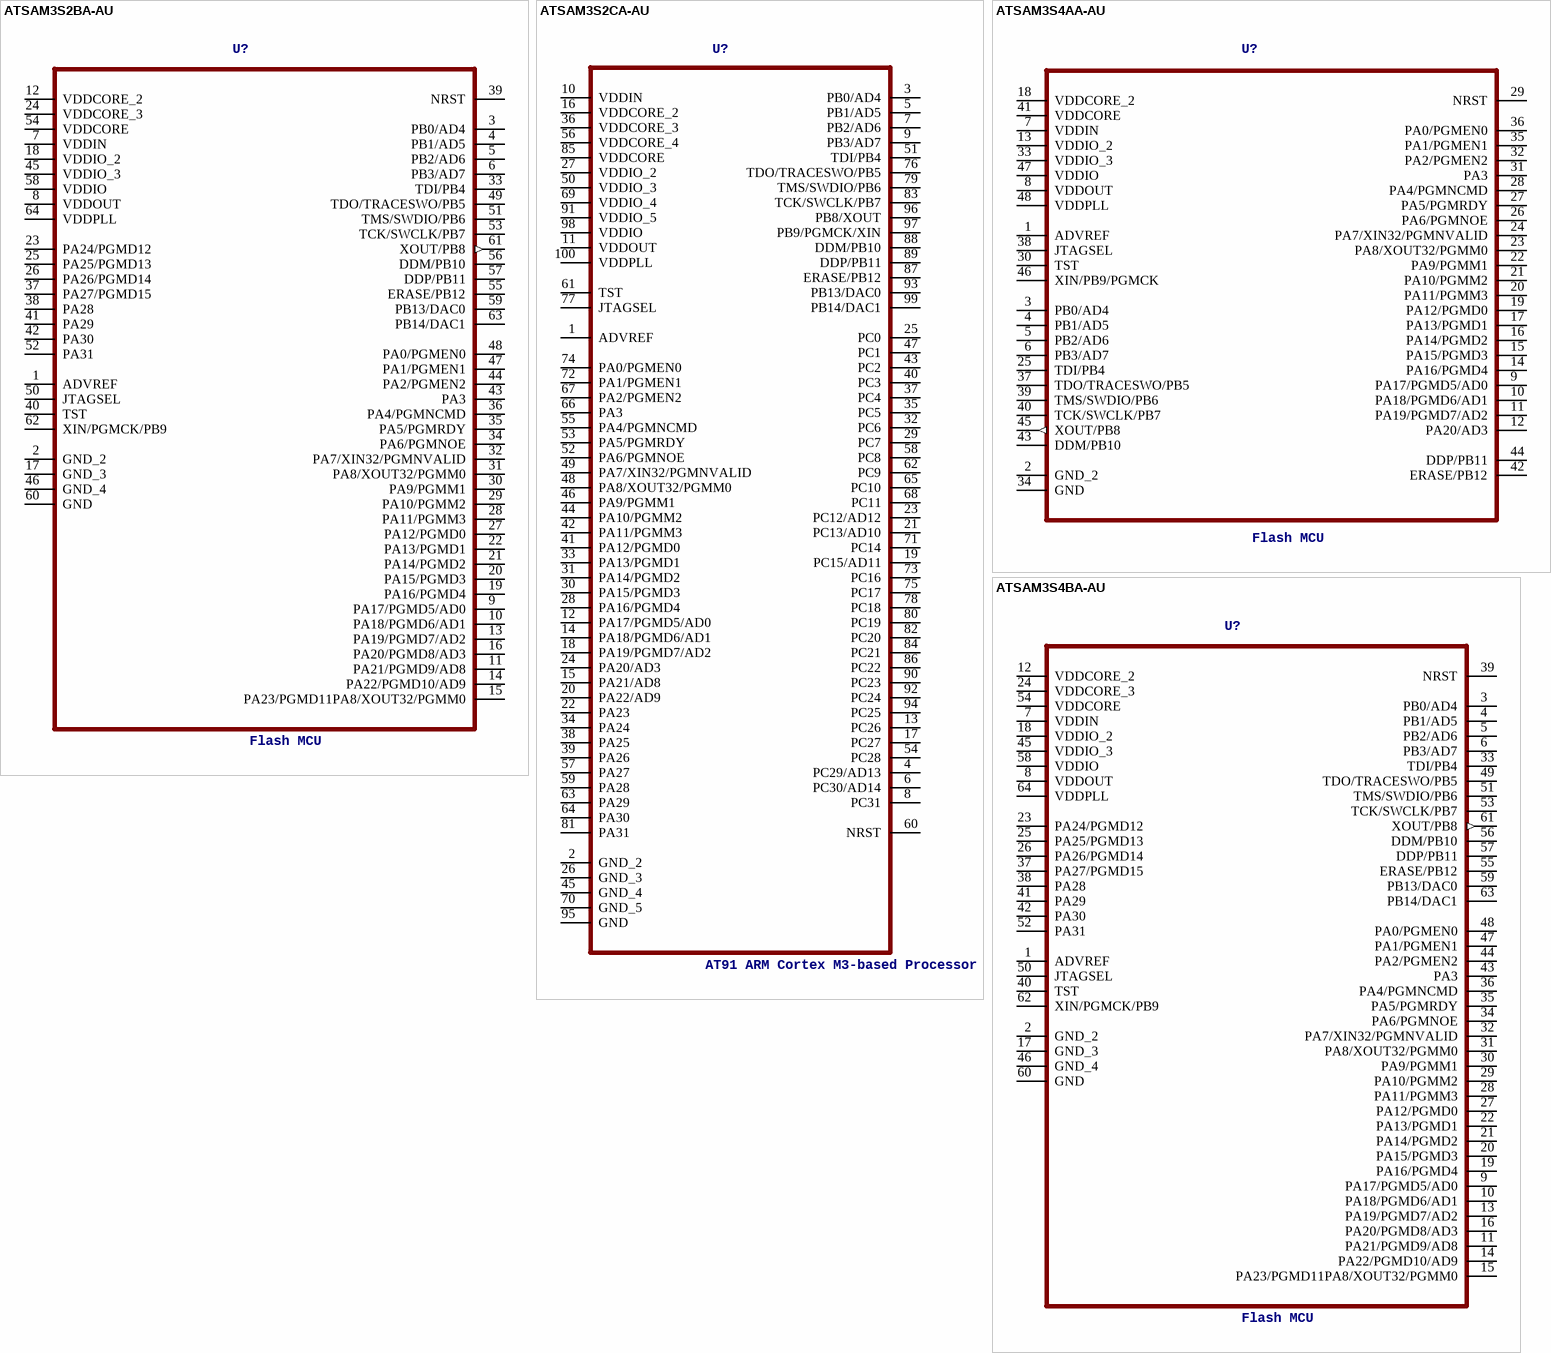
[diagram p41: symbols ATSAM3S2BA-AU to ATSAM3S4BA-AU]

## ATSAM3S2BA-AU
designator U?, comment Flash MCU
MPN: ATSAM3S2BA-AU; DESCRIPTION: Flash MCU; OC_FARNELL: 1841653; OC_NEWARK: 12T1311; PACKAGE: QFP-64; SUPPLIER: Atmel
footprint QFP50P1200X1200X160-64N
pins: 1 ADVREF, 2 GND_2, 3 PB0/AD4, 4 PB1/AD5, 5 PB2/AD6, 6 PB3/AD7, 7 VDDIN (power), 8 VDDOUT (power), 9 PA17/PGMD5/AD0, 10 PA18/PGMD6/AD1, 11 PA21/PGMD9/AD8, 12 VDDCORE_2 (power), 13 PA19/PGMD7/AD2, 14 PA22/PGMD10/AD9, 15 PA23/PGMD11PA8/XOUT32/PGMM0, 16 PA20/PGMD8/AD3, 17 GND_3, 18 VDDIO_2 (power), 19 PA16/PGMD4, 20 PA15/PGMD3, 21 PA14/PGMD2, 22 PA13/PGMD1, 23 PA24/PGMD12, 24 VDDCORE_3 (power), 25 PA25/PGMD13, 26 PA26/PGMD14, 27 PA12/PGMD0, 28 PA11/PGMM3, 29 PA10/PGMM2, 30 PA9/PGMM1, 31 PA8/XOUT32/PGMM0, 32 PA7/XIN32/PGMNVALID, 33 TDI/PB4, 34 PA6/PGMNOE, 35 PA5/PGMRDY, 36 PA4/PGMNCMD, 37 PA27/PGMD15, 38 PA28, 39 NRST, 40 TST, 41 PA29, 42 PA30, 43 PA3, 44 PA2/PGMEN2, 45 VDDIO_3 (power), 46 GND_4, 47 PA1/PGMEN1, 48 PA0/PGMEN0, 49 TDO/TRACESWO/PB5, 50 JTAGSEL, 51 TMS/SWDIO/PB6, 52 PA31, 53 TCK/SWCLK/PB7, 54 VDDCORE (power), 55 ERASE/PB12, 56 DDM/PB10, 57 DDP/PB11, 58 VDDIO (power), 59 PB13/DAC0, 60 GND, 61 XOUT/PB8 (out), 62 XIN/PGMCK/PB9, 63 PB14/DAC1, 64 VDDPLL (power)

## ATSAM3S2CA-AU
designator U?, comment AT91 ARM Cortex M3-based Processor
MPN: ATSAM3S2CA-AU; DESCRIPTION: AT91 ARM Cortex M3-based Processor; OC_FARNELL: 1841654; OC_NEWARK: 12T1312; PACKAGE: LQFP-100; SUPPLIER: Atmel Corporation
footprint QFP50P1600X1600X160-100N
pins: 1 ADVREF, 2 GND_2, 3 PB0/AD4, 4 PC29/AD13, 5 PB1/AD5, 6 PC30/AD14, 7 PB2/AD6, 8 PC31, 9 PB3/AD7, 10 VDDIN (power), 11 VDDOUT (power), 12 PA17/PGMD5/AD0, 13 PC26, 14 PA18/PGMD6/AD1, 15 PA21/AD8, 16 VDDCORE_2 (power), 17 PC27, 18 PA19/PGMD7/AD2, 19 PC15/AD11, 20 PA22/AD9, 21 PC13/AD10, 22 PA23, 23 PC12/AD12, 24 PA20/AD3, 25 PC0, 26 GND_3, 27 VDDIO_2 (power), 28 PA16/PGMD4, 29 PC7, 30 PA15/PGMD3, 31 PA14/PGMD2, 32 PC6, 33 PA13/PGMD1, 34 PA24, 35 PC5, 36 VDDCORE_3 (power), 37 PC4, 38 PA25, 39 PA26, 40 PC3, 41 PA12/PGMD0, 42 PA11/PGMM3, 43 PC2, 44 PA10/PGMM2, 45 GND_4, 46 PA9/PGMM1, 47 PC1, 48 PA8/XOUT32/PGMM0, 49 PA7/XIN32/PGMNVALID, 50 VDDIO_3 (power), 51 TDI/PB4, 52 PA6/PGMNOE, 53 PA5/PGMRDY, 54 PC28, 55 PA4/PGMNCMD, 56 VDDCORE_4 (power), 57 PA27, 58 PC8, 59 PA28, 60 NRST, 61 TST, 62 PC9, 63 PA29, 64 PA30, 65 PC10, 66 PA3, 67 PA2/PGMEN2, 68 PC11, 69 VDDIO_4 (power), 70 GND_5, 71 PC14, 72 PA1/PGMEN1, 73 PC16, 74 PA0/PGMEN0, 75 PC17, 76 TDO/TRACESWO/PB5, 77 JTAGSEL, 78 PC18, 79 TMS/SWDIO/PB6, 80 PC19, 81 PA31, 82 PC20, 83 TCK/SWCLK/PB7, 84 PC21, 85 VDDCORE (power), 86 PC22, 87 ERASE/PB12, 88 DDM/PB10, 89 DDP/PB11, 90 PC23, 91 VDDIO_5 (power), 92 PC24, 93 PB13/DAC0, 94 PC25, 95 GND, 96 PB8/XOUT, 97 PB9/PGMCK/XIN, 98 VDDIO (power), 99 PB14/DAC1, 100 VDDPLL (power)

## ATSAM3S4AA-AU
designator U?, comment Flash MCU
MPN: ATSAM3S4AA-AU; DESCRIPTION: Flash MCU; OC_FARNELL: 1841655; OC_NEWARK: 12T1313; PACKAGE: QFP-48; SUPPLIER: Atmel
footprint QFP50P900X900X160-48N
pins: 1 ADVREF, 2 GND_2, 3 PB0/AD4, 4 PB1/AD5, 5 PB2/AD6, 6 PB3/AD7, 7 VDDIN (power), 8 VDDOUT (power), 9 PA17/PGMD5/AD0, 10 PA18/PGMD6/AD1, 11 PA19/PGMD7/AD2, 12 PA20/AD3, 13 VDDIO_2 (power), 14 PA16/PGMD4, 15 PA15/PGMD3, 16 PA14/PGMD2, 17 PA13/PGMD1, 18 VDDCORE_2 (power), 19 PA12/PGMD0, 20 PA11/PGMM3, 21 PA10/PGMM2, 22 PA9/PGMM1, 23 PA8/XOUT32/PGMM0, 24 PA7/XIN32/PGMNVALID, 25 TDI/PB4, 26 PA6/PGMNOE, 27 PA5/PGMRDY, 28 PA4/PGMNCMD, 29 NRST, 30 TST, 31 PA3, 32 PA2/PGMEN2, 33 VDDIO_3 (power), 34 GND, 35 PA1/PGMEN1, 36 PA0/PGMEN0, 37 TDO/TRACESWO/PB5, 38 JTAGSEL, 39 TMS/SWDIO/PB6, 40 TCK/SWCLK/PB7, 41 VDDCORE (power), 42 ERASE/PB12, 43 DDM/PB10, 44 DDP/PB11, 45 XOUT/PB8 (out), 46 XIN/PB9/PGMCK, 47 VDDIO (power), 48 VDDPLL (power)

## ATSAM3S4BA-AU
designator U?, comment Flash MCU
MPN: ATSAM3S4BA-AU; DESCRIPTION: Flash MCU; OC_FARNELL: 1841656; OC_NEWARK: 12T1314; PACKAGE: QFP-64; SUPPLIER: Atmel
footprint QFP50P1200X1200X160-64N
pins: 1 ADVREF, 2 GND_2, 3 PB0/AD4, 4 PB1/AD5, 5 PB2/AD6, 6 PB3/AD7, 7 VDDIN (power), 8 VDDOUT (power), 9 PA17/PGMD5/AD0, 10 PA18/PGMD6/AD1, 11 PA21/PGMD9/AD8, 12 VDDCORE_2 (power), 13 PA19/PGMD7/AD2, 14 PA22/PGMD10/AD9, 15 PA23/PGMD11PA8/XOUT32/PGMM0, 16 PA20/PGMD8/AD3, 17 GND_3, 18 VDDIO_2 (power), 19 PA16/PGMD4, 20 PA15/PGMD3, 21 PA14/PGMD2, 22 PA13/PGMD1, 23 PA24/PGMD12, 24 VDDCORE_3 (power), 25 PA25/PGMD13, 26 PA26/PGMD14, 27 PA12/PGMD0, 28 PA11/PGMM3, 29 PA10/PGMM2, 30 PA9/PGMM1, 31 PA8/XOUT32/PGMM0, 32 PA7/XIN32/PGMNVALID, 33 TDI/PB4, 34 PA6/PGMNOE, 35 PA5/PGMRDY, 36 PA4/PGMNCMD, 37 PA27/PGMD15, 38 PA28, 39 NRST, 40 TST, 41 PA29, 42 PA30, 43 PA3, 44 PA2/PGMEN2, 45 VDDIO_3 (power), 46 GND_4, 47 PA1/PGMEN1, 48 PA0/PGMEN0, 49 TDO/TRACESWO/PB5, 50 JTAGSEL, 51 TMS/SWDIO/PB6, 52 PA31, 53 TCK/SWCLK/PB7, 54 VDDCORE (power), 55 ERASE/PB12, 56 DDM/PB10, 57 DDP/PB11, 58 VDDIO (power), 59 PB13/DAC0, 60 GND, 61 XOUT/PB8 (out), 62 XIN/PGMCK/PB9, 63 PB14/DAC1, 64 VDDPLL (power)

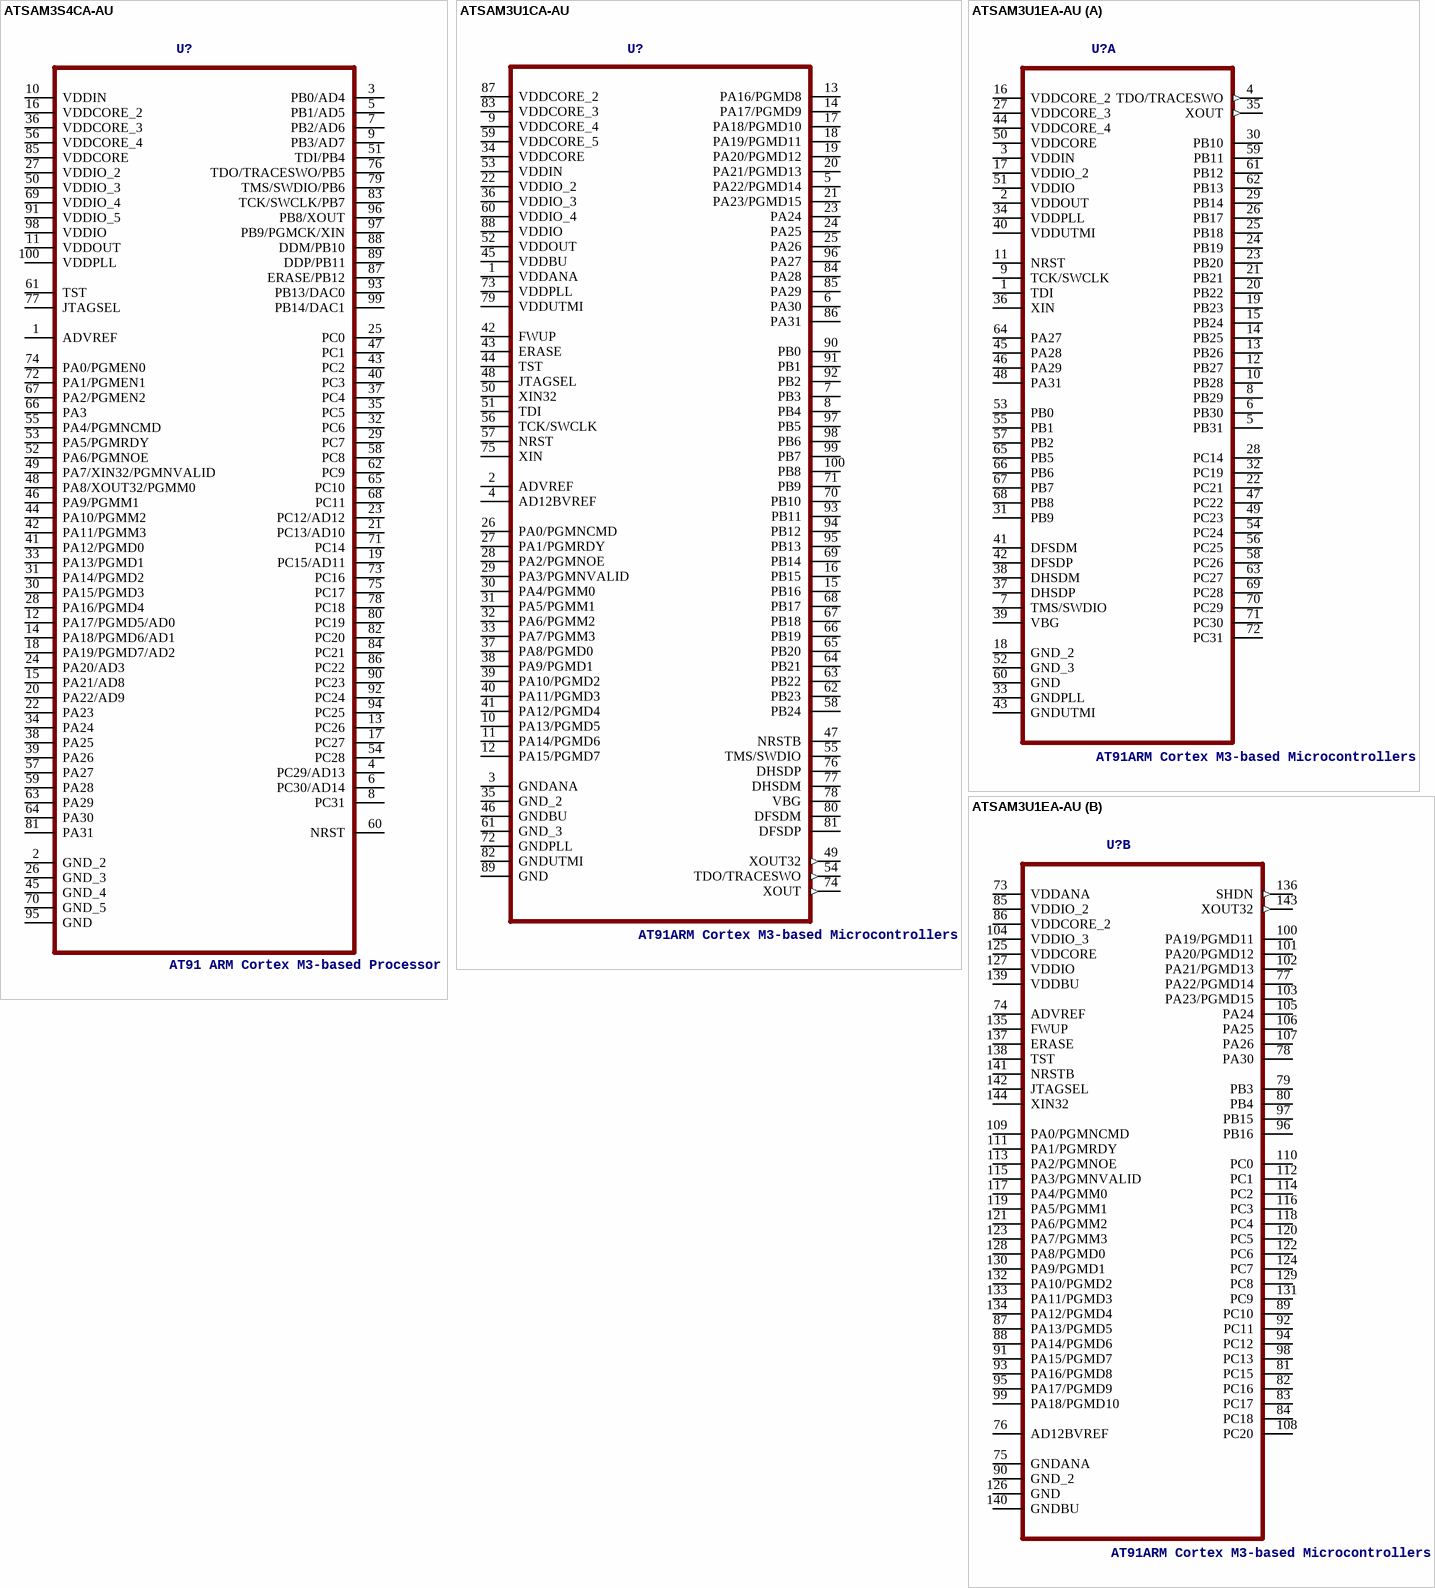
[diagram p42: symbols ATSAM3S4CA-AU to ATSAM3U1EA-AU]

## ATSAM3S4CA-AU
designator U?, comment AT91 ARM Cortex M3-based Processor
MPN: ATSAM3S4CA-AU; DESCRIPTION: AT91 ARM Cortex M3-based Processor; OC_FARNELL: 1841657; OC_NEWARK: 12T1315; PACKAGE: LQFP-100; SUPPLIER: Atmel Corporation
footprint QFP50P1600X1600X160-100N
pins: 1 ADVREF, 2 GND_2, 3 PB0/AD4, 4 PC29/AD13, 5 PB1/AD5, 6 PC30/AD14, 7 PB2/AD6, 8 PC31, 9 PB3/AD7, 10 VDDIN (power), 11 VDDOUT (power), 12 PA17/PGMD5/AD0, 13 PC26, 14 PA18/PGMD6/AD1, 15 PA21/AD8, 16 VDDCORE_2 (power), 17 PC27, 18 PA19/PGMD7/AD2, 19 PC15/AD11, 20 PA22/AD9, 21 PC13/AD10, 22 PA23, 23 PC12/AD12, 24 PA20/AD3, 25 PC0, 26 GND_3, 27 VDDIO_2 (power), 28 PA16/PGMD4, 29 PC7, 30 PA15/PGMD3, 31 PA14/PGMD2, 32 PC6, 33 PA13/PGMD1, 34 PA24, 35 PC5, 36 VDDCORE_3 (power), 37 PC4, 38 PA25, 39 PA26, 40 PC3, 41 PA12/PGMD0, 42 PA11/PGMM3, 43 PC2, 44 PA10/PGMM2, 45 GND_4, 46 PA9/PGMM1, 47 PC1, 48 PA8/XOUT32/PGMM0, 49 PA7/XIN32/PGMNVALID, 50 VDDIO_3 (power), 51 TDI/PB4, 52 PA6/PGMNOE, 53 PA5/PGMRDY, 54 PC28, 55 PA4/PGMNCMD, 56 VDDCORE_4 (power), 57 PA27, 58 PC8, 59 PA28, 60 NRST, 61 TST, 62 PC9, 63 PA29, 64 PA30, 65 PC10, 66 PA3, 67 PA2/PGMEN2, 68 PC11, 69 VDDIO_4 (power), 70 GND_5, 71 PC14, 72 PA1/PGMEN1, 73 PC16, 74 PA0/PGMEN0, 75 PC17, 76 TDO/TRACESWO/PB5, 77 JTAGSEL, 78 PC18, 79 TMS/SWDIO/PB6, 80 PC19, 81 PA31, 82 PC20, 83 TCK/SWCLK/PB7, 84 PC21, 85 VDDCORE (power), 86 PC22, 87 ERASE/PB12, 88 DDM/PB10, 89 DDP/PB11, 90 PC23, 91 VDDIO_5 (power), 92 PC24, 93 PB13/DAC0, 94 PC25, 95 GND, 96 PB8/XOUT, 97 PB9/PGMCK/XIN, 98 VDDIO (power), 99 PB14/DAC1, 100 VDDPLL (power)

## ATSAM3U1CA-AU
designator U?, comment AT91ARM Cortex M3-based Microcontrollers
MPN: ATSAM3U1CA-AU; DESCRIPTION: AT91ARM Cortex M3-based Microcontrollers; OC_FARNELL: 1841659; OC_NEWARK: 12T1316; PACKAGE: LQFP-100; SUPPLIER: Atmel Corporation
footprint QFP50P1600X1600X160-100N
pins: 1 VDDANA (power), 2 ADVREF, 3 GNDANA, 4 AD12BVREF, 5 PA22/PGMD14, 6 PA30, 7 PB3, 8 PB4, 9 VDDCORE_4 (power), 10 PA13/PGMD5, 11 PA14/PGMD6, 12 PA15/PGMD7, 13 PA16/PGMD8, 14 PA17/PGMD9, 15 PB16, 16 PB15, 17 PA18/PGMD10, 18 PA19/PGMD11, 19 PA20/PGMD12, 20 PA21/PGMD13, 21 PA23/PGMD15, 22 VDDIO_2 (power), 23 PA24, 24 PA25, 25 PA26, 26 PA0/PGMNCMD, 27 PA1/PGMRDY, 28 PA2/PGMNOE, 29 PA3/PGMNVALID, 30 PA4/PGMM0, 31 PA5/PGMM1, 32 PA6/PGMM2, 33 PA7/PGMM3, 34 VDDCORE (power), 35 GND_2, 36 VDDIO_3 (power), 37 PA8/PGMD0, 38 PA9/PGMD1, 39 PA10/PGMD2, 40 PA11/PGMD3, 41 PA12/PGMD4, 42 FWUP, 43 ERASE, 44 TST, 45 VDDBU (power), 46 GNDBU, 47 NRSTB, 48 JTAGSEL, 49 XOUT32 (out), 50 XIN32, 51 TDI, 52 VDDOUT (power), 53 VDDIN (power), 54 TDO/TRACESWO (out), 55 TMS/SWDIO, 56 TCK/SWCLK, 57 NRST, 58 PB24, 59 VDDCORE_5 (power), 60 VDDIO_4 (power), 61 GND_3, 62 PB23, 63 PB22, 64 PB21, 65 PB20, 66 PB19, 67 PB18, 68 PB17, 69 PB14, 70 PB10, 71 PB9, 72 GNDPLL, 73 VDDPLL (power), 74 XOUT (out), 75 XIN, 76 DHSDP, 77 DHSDM, 78 VBG, 79 VDDUTMI (power), 80 DFSDM, 81 DFSDP, 82 GNDUTMI, 83 VDDCORE_3 (power), 84 PA28, 85 PA29, 86 PA31, 87 VDDCORE_2 (power), 88 VDDIO (power), 89 GND, 90 PB0, 91 PB1, 92 PB2, 93 PB11, 94 PB12, 95 PB13, 96 PA27, 97 PB5, 98 PB6, 99 PB7, 100 PB8

## ATSAM3U1EA-AU
designator U?, comment AT91ARM Cortex M3-based Microcontrollers
MPN: ATSAM3U1EA-AU; DESCRIPTION: AT91ARM Cortex M3-based Microcontrollers; OC_FARNELL: 1841661; OC_NEWARK: 12T1317; PACKAGE: LQFP-144; SUPPLIER: Atmel Corporation
footprint QFP50P2200X2200X145-144N
part A pins: 1 TDI, 2 VDDOUT (power), 3 VDDIN (power), 4 TDO/TRACESWO (out), 5 PB31, 6 PB30, 7 TMS/SWDIO, 8 PB29, 9 TCK/SWCLK, 10 PB28, 11 NRST, 12 PB27, 13 PB26, 14 PB25, 15 PB24, 16 VDDCORE_2 (power), 17 VDDIO_2 (power), 18 GND_2, 19 PB23, 20 PB22, 21 PB21, 22 PC21, 23 PB20, 24 PB19, 25 PB18, 26 PB17, 27 VDDCORE_3 (power), 28 PC14, 29 PB14, 30 PB10, 31 PB9, 32 PC19, 33 GNDPLL, 34 VDDPLL (power), 35 XOUT (out), 36 XIN, 37 DHSDP, 38 DHSDM, 39 VBG, 40 VDDUTMI (power), 41 DFSDM, 42 DFSDP, 43 GNDUTMI, 44 VDDCORE_4 (power), 45 PA28, 46 PA29, 47 PC22, 48 PA31, 49 PC23, 50 VDDCORE (power), 51 VDDIO (power), 52 GND_3, 53 PB0, 54 PC24, 55 PB1, 56 PC25, 57 PB2, 58 PC26, 59 PB11, 60 GND, 61 PB12, 62 PB13, 63 PC27, 64 PA27, 65 PB5, 66 PB6, 67 PB7, 68 PB8, 69 PC28, 70 PC29, 71 PC30, 72 PC31
part B pins: 73 VDDANA (power), 74 ADVREF, 75 GNDANA, 76 AD12BVREF, 77 PA22/PGMD14, 78 PA30, 79 PB3, 80 PB4, 81 PC15, 82 PC16, 83 PC17, 84 PC18, 85 VDDIO_2 (power), 86 VDDCORE_2 (power), 87 PA13/PGMD5, 88 PA14/PGMD6, 89 PC10, 90 GND_2, 91 PA15/PGMD7, 92 PC11, 93 PA16/PGMD8, 94 PC12, 95 PA17/PGMD9, 96 PB16, 97 PB15, 98 PC13, 99 PA18/PGMD10, 100 PA19/PGMD11, 101 PA20/PGMD12, 102 PA21/PGMD13, 103 PA23/PGMD15, 104 VDDIO_3 (power), 105 PA24, 106 PA25, 107 PA26, 108 PC20, 109 PA0/PGMNCMD, 110 PC0, 111 PA1/PGMRDY, 112 PC1, 113 PA2/PGMNOE, 114 PC2, 115 PA3/PGMNVALID, 116 PC3, 117 PA4/PGMM0, 118 PC4, 119 PA5/PGMM1, 120 PC5, 121 PA6/PGMM2, 122 PC6, 123 PA7/PGMM3, 124 PC7, 125 VDDCORE (power), 126 GND, 127 VDDIO (power), 128 PA8/PGMD0, 129 PC8, 130 PA9/PGMD1, 131 PC9, 132 PA10/PGMD2, 133 PA11/PGMD3, 134 PA12/PGMD4, 135 FWUP, 136 SHDN (out), 137 ERASE, 138 TST, 139 VDDBU (power), 140 GNDBU, 141 NRSTB, 142 JTAGSEL, 143 XOUT32 (out), 144 XIN32

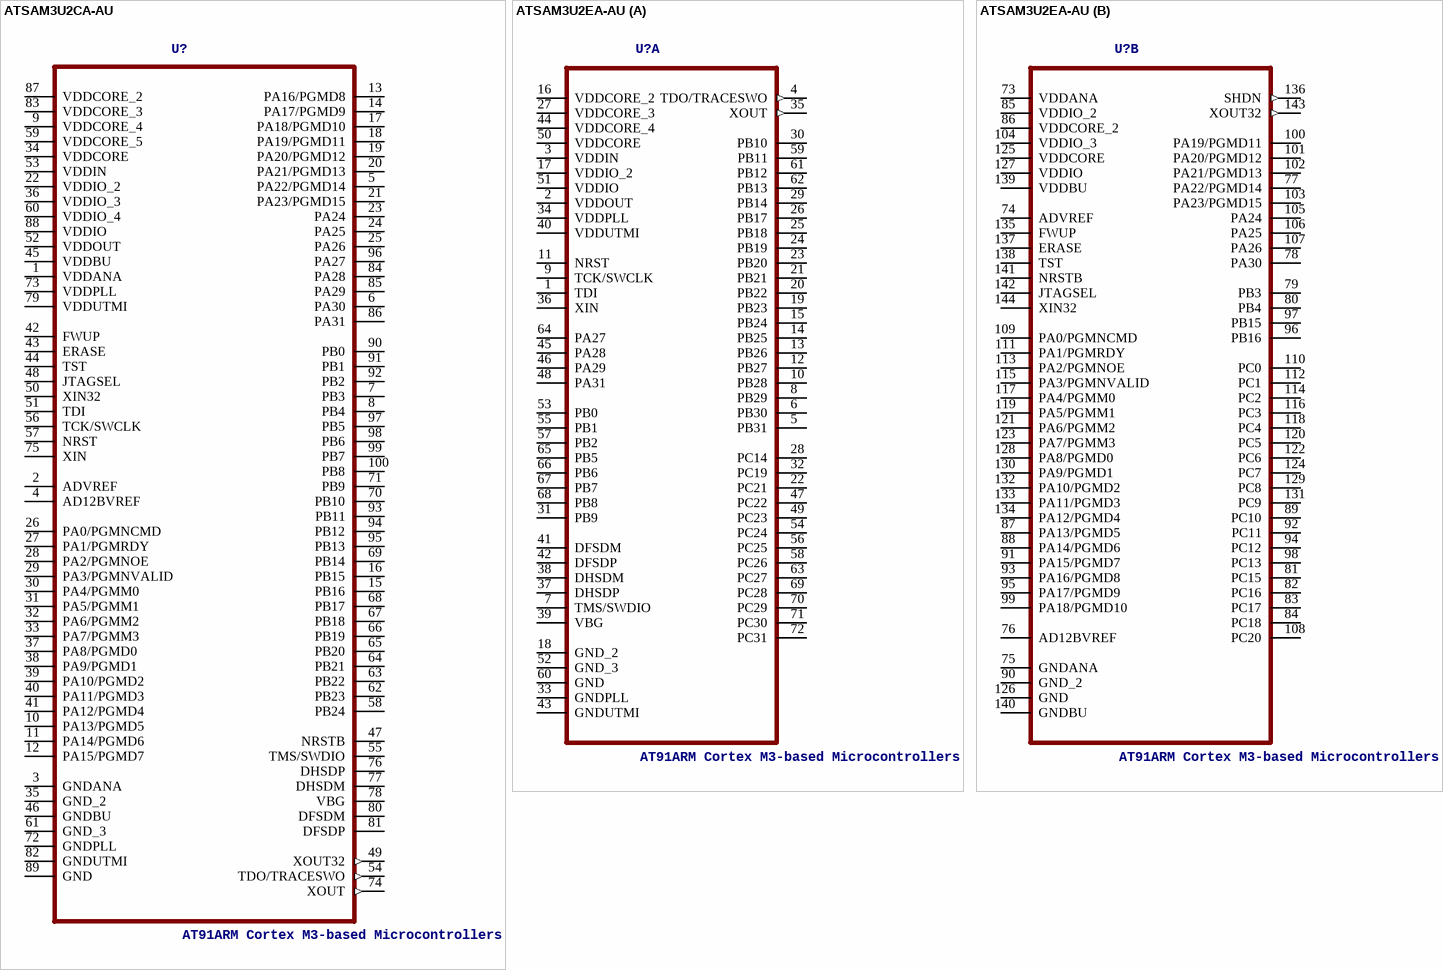
[diagram p43: symbols ATSAM3U2CA-AU to ATSAM3U2EA-AU]

## ATSAM3U2CA-AU
designator U?, comment AT91ARM Cortex M3-based Microcontrollers
MPN: ATSAM3U2CA-AU; DESCRIPTION: AT91ARM Cortex M3-based Microcontrollers; OC_FARNELL: 1841662; OC_NEWARK: 12T1318; PACKAGE: LQFP-100; SUPPLIER: Atmel Corporation
footprint QFP50P1600X1600X160-100N
pins: 1 VDDANA (power), 2 ADVREF, 3 GNDANA, 4 AD12BVREF, 5 PA22/PGMD14, 6 PA30, 7 PB3, 8 PB4, 9 VDDCORE_4 (power), 10 PA13/PGMD5, 11 PA14/PGMD6, 12 PA15/PGMD7, 13 PA16/PGMD8, 14 PA17/PGMD9, 15 PB16, 16 PB15, 17 PA18/PGMD10, 18 PA19/PGMD11, 19 PA20/PGMD12, 20 PA21/PGMD13, 21 PA23/PGMD15, 22 VDDIO_2 (power), 23 PA24, 24 PA25, 25 PA26, 26 PA0/PGMNCMD, 27 PA1/PGMRDY, 28 PA2/PGMNOE, 29 PA3/PGMNVALID, 30 PA4/PGMM0, 31 PA5/PGMM1, 32 PA6/PGMM2, 33 PA7/PGMM3, 34 VDDCORE (power), 35 GND_2, 36 VDDIO_3 (power), 37 PA8/PGMD0, 38 PA9/PGMD1, 39 PA10/PGMD2, 40 PA11/PGMD3, 41 PA12/PGMD4, 42 FWUP, 43 ERASE, 44 TST, 45 VDDBU (power), 46 GNDBU, 47 NRSTB, 48 JTAGSEL, 49 XOUT32 (out), 50 XIN32, 51 TDI, 52 VDDOUT (power), 53 VDDIN (power), 54 TDO/TRACESWO (out), 55 TMS/SWDIO, 56 TCK/SWCLK, 57 NRST, 58 PB24, 59 VDDCORE_5 (power), 60 VDDIO_4 (power), 61 GND_3, 62 PB23, 63 PB22, 64 PB21, 65 PB20, 66 PB19, 67 PB18, 68 PB17, 69 PB14, 70 PB10, 71 PB9, 72 GNDPLL, 73 VDDPLL (power), 74 XOUT (out), 75 XIN, 76 DHSDP, 77 DHSDM, 78 VBG, 79 VDDUTMI (power), 80 DFSDM, 81 DFSDP, 82 GNDUTMI, 83 VDDCORE_3 (power), 84 PA28, 85 PA29, 86 PA31, 87 VDDCORE_2 (power), 88 VDDIO (power), 89 GND, 90 PB0, 91 PB1, 92 PB2, 93 PB11, 94 PB12, 95 PB13, 96 PA27, 97 PB5, 98 PB6, 99 PB7, 100 PB8

## ATSAM3U2EA-AU
designator U?, comment AT91ARM Cortex M3-based Microcontrollers
MPN: ATSAM3U2EA-AU; DESCRIPTION: AT91ARM Cortex M3-based Microcontrollers; OC_FARNELL: 1841663; OC_NEWARK: 12T1319; PACKAGE: LQFP-144; SUPPLIER: Atmel Corporation
footprint QFP50P2200X2200X145-144N
part A pins: 1 TDI, 2 VDDOUT (power), 3 VDDIN (power), 4 TDO/TRACESWO (out), 5 PB31, 6 PB30, 7 TMS/SWDIO, 8 PB29, 9 TCK/SWCLK, 10 PB28, 11 NRST, 12 PB27, 13 PB26, 14 PB25, 15 PB24, 16 VDDCORE_2 (power), 17 VDDIO_2 (power), 18 GND_2, 19 PB23, 20 PB22, 21 PB21, 22 PC21, 23 PB20, 24 PB19, 25 PB18, 26 PB17, 27 VDDCORE_3 (power), 28 PC14, 29 PB14, 30 PB10, 31 PB9, 32 PC19, 33 GNDPLL, 34 VDDPLL (power), 35 XOUT (out), 36 XIN, 37 DHSDP, 38 DHSDM, 39 VBG, 40 VDDUTMI (power), 41 DFSDM, 42 DFSDP, 43 GNDUTMI, 44 VDDCORE_4 (power), 45 PA28, 46 PA29, 47 PC22, 48 PA31, 49 PC23, 50 VDDCORE (power), 51 VDDIO (power), 52 GND_3, 53 PB0, 54 PC24, 55 PB1, 56 PC25, 57 PB2, 58 PC26, 59 PB11, 60 GND, 61 PB12, 62 PB13, 63 PC27, 64 PA27, 65 PB5, 66 PB6, 67 PB7, 68 PB8, 69 PC28, 70 PC29, 71 PC30, 72 PC31
part B pins: 73 VDDANA (power), 74 ADVREF, 75 GNDANA, 76 AD12BVREF, 77 PA22/PGMD14, 78 PA30, 79 PB3, 80 PB4, 81 PC15, 82 PC16, 83 PC17, 84 PC18, 85 VDDIO_2 (power), 86 VDDCORE_2 (power), 87 PA13/PGMD5, 88 PA14/PGMD6, 89 PC10, 90 GND_2, 91 PA15/PGMD7, 92 PC11, 93 PA16/PGMD8, 94 PC12, 95 PA17/PGMD9, 96 PB16, 97 PB15, 98 PC13, 99 PA18/PGMD10, 100 PA19/PGMD11, 101 PA20/PGMD12, 102 PA21/PGMD13, 103 PA23/PGMD15, 104 VDDIO_3 (power), 105 PA24, 106 PA25, 107 PA26, 108 PC20, 109 PA0/PGMNCMD, 110 PC0, 111 PA1/PGMRDY, 112 PC1, 113 PA2/PGMNOE, 114 PC2, 115 PA3/PGMNVALID, 116 PC3, 117 PA4/PGMM0, 118 PC4, 119 PA5/PGMM1, 120 PC5, 121 PA6/PGMM2, 122 PC6, 123 PA7/PGMM3, 124 PC7, 125 VDDCORE (power), 126 GND, 127 VDDIO (power), 128 PA8/PGMD0, 129 PC8, 130 PA9/PGMD1, 131 PC9, 132 PA10/PGMD2, 133 PA11/PGMD3, 134 PA12/PGMD4, 135 FWUP, 136 SHDN (out), 137 ERASE, 138 TST, 139 VDDBU (power), 140 GNDBU, 141 NRSTB, 142 JTAGSEL, 143 XOUT32 (out), 144 XIN32

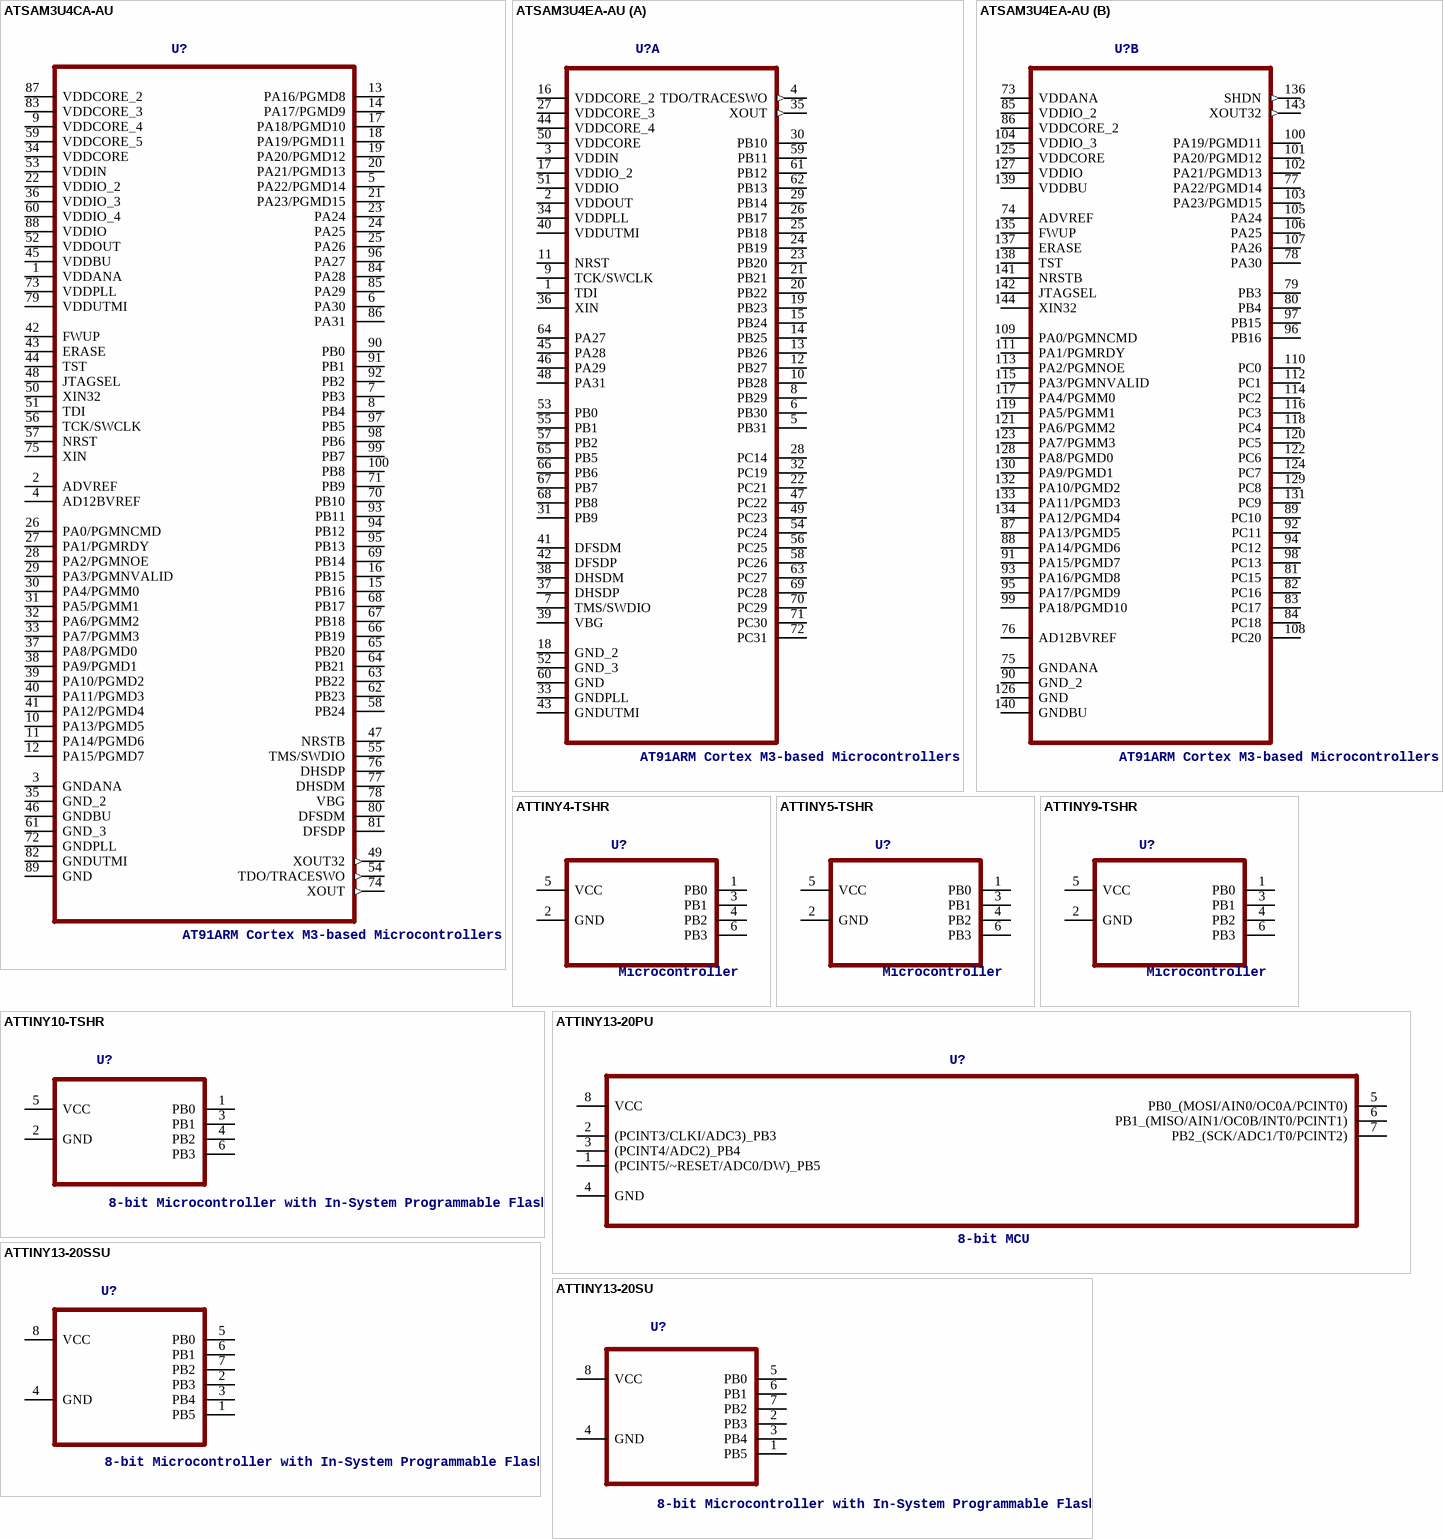
[diagram p44: symbols ATSAM3U4CA-AU to ATTINY13-20SU]

## ATSAM3U4CA-AU
designator U?, comment AT91ARM Cortex M3-based Microcontrollers
MPN: ATSAM3U4CA-AU; DESCRIPTION: AT91ARM Cortex M3-based Microcontrollers; OC_FARNELL: 1841664; OC_NEWARK: 12T1320; PACKAGE: LQFP-100; SUPPLIER: Atmel Corporation
footprint QFP50P1600X1600X160-100N
pins: 1 VDDANA (power), 2 ADVREF, 3 GNDANA, 4 AD12BVREF, 5 PA22/PGMD14, 6 PA30, 7 PB3, 8 PB4, 9 VDDCORE_4 (power), 10 PA13/PGMD5, 11 PA14/PGMD6, 12 PA15/PGMD7, 13 PA16/PGMD8, 14 PA17/PGMD9, 15 PB16, 16 PB15, 17 PA18/PGMD10, 18 PA19/PGMD11, 19 PA20/PGMD12, 20 PA21/PGMD13, 21 PA23/PGMD15, 22 VDDIO_2 (power), 23 PA24, 24 PA25, 25 PA26, 26 PA0/PGMNCMD, 27 PA1/PGMRDY, 28 PA2/PGMNOE, 29 PA3/PGMNVALID, 30 PA4/PGMM0, 31 PA5/PGMM1, 32 PA6/PGMM2, 33 PA7/PGMM3, 34 VDDCORE (power), 35 GND_2, 36 VDDIO_3 (power), 37 PA8/PGMD0, 38 PA9/PGMD1, 39 PA10/PGMD2, 40 PA11/PGMD3, 41 PA12/PGMD4, 42 FWUP, 43 ERASE, 44 TST, 45 VDDBU (power), 46 GNDBU, 47 NRSTB, 48 JTAGSEL, 49 XOUT32 (out), 50 XIN32, 51 TDI, 52 VDDOUT (power), 53 VDDIN (power), 54 TDO/TRACESWO (out), 55 TMS/SWDIO, 56 TCK/SWCLK, 57 NRST, 58 PB24, 59 VDDCORE_5 (power), 60 VDDIO_4 (power), 61 GND_3, 62 PB23, 63 PB22, 64 PB21, 65 PB20, 66 PB19, 67 PB18, 68 PB17, 69 PB14, 70 PB10, 71 PB9, 72 GNDPLL, 73 VDDPLL (power), 74 XOUT (out), 75 XIN, 76 DHSDP, 77 DHSDM, 78 VBG, 79 VDDUTMI (power), 80 DFSDM, 81 DFSDP, 82 GNDUTMI, 83 VDDCORE_3 (power), 84 PA28, 85 PA29, 86 PA31, 87 VDDCORE_2 (power), 88 VDDIO (power), 89 GND, 90 PB0, 91 PB1, 92 PB2, 93 PB11, 94 PB12, 95 PB13, 96 PA27, 97 PB5, 98 PB6, 99 PB7, 100 PB8

## ATSAM3U4EA-AU
designator U?, comment AT91ARM Cortex M3-based Microcontrollers
MPN: ATSAM3U4EA-AU; DESCRIPTION: AT91ARM Cortex M3-based Microcontrollers; OC_FARNELL: 1841665; OC_NEWARK: 12T1321; PACKAGE: LQFP-144; SUPPLIER: Atmel Corporation
footprint QFP50P2200X2200X145-144N
part A pins: 1 TDI, 2 VDDOUT (power), 3 VDDIN (power), 4 TDO/TRACESWO (out), 5 PB31, 6 PB30, 7 TMS/SWDIO, 8 PB29, 9 TCK/SWCLK, 10 PB28, 11 NRST, 12 PB27, 13 PB26, 14 PB25, 15 PB24, 16 VDDCORE_2 (power), 17 VDDIO_2 (power), 18 GND_2, 19 PB23, 20 PB22, 21 PB21, 22 PC21, 23 PB20, 24 PB19, 25 PB18, 26 PB17, 27 VDDCORE_3 (power), 28 PC14, 29 PB14, 30 PB10, 31 PB9, 32 PC19, 33 GNDPLL, 34 VDDPLL (power), 35 XOUT (out), 36 XIN, 37 DHSDP, 38 DHSDM, 39 VBG, 40 VDDUTMI (power), 41 DFSDM, 42 DFSDP, 43 GNDUTMI, 44 VDDCORE_4 (power), 45 PA28, 46 PA29, 47 PC22, 48 PA31, 49 PC23, 50 VDDCORE (power), 51 VDDIO (power), 52 GND_3, 53 PB0, 54 PC24, 55 PB1, 56 PC25, 57 PB2, 58 PC26, 59 PB11, 60 GND, 61 PB12, 62 PB13, 63 PC27, 64 PA27, 65 PB5, 66 PB6, 67 PB7, 68 PB8, 69 PC28, 70 PC29, 71 PC30, 72 PC31
part B pins: 73 VDDANA (power), 74 ADVREF, 75 GNDANA, 76 AD12BVREF, 77 PA22/PGMD14, 78 PA30, 79 PB3, 80 PB4, 81 PC15, 82 PC16, 83 PC17, 84 PC18, 85 VDDIO_2 (power), 86 VDDCORE_2 (power), 87 PA13/PGMD5, 88 PA14/PGMD6, 89 PC10, 90 GND_2, 91 PA15/PGMD7, 92 PC11, 93 PA16/PGMD8, 94 PC12, 95 PA17/PGMD9, 96 PB16, 97 PB15, 98 PC13, 99 PA18/PGMD10, 100 PA19/PGMD11, 101 PA20/PGMD12, 102 PA21/PGMD13, 103 PA23/PGMD15, 104 VDDIO_3 (power), 105 PA24, 106 PA25, 107 PA26, 108 PC20, 109 PA0/PGMNCMD, 110 PC0, 111 PA1/PGMRDY, 112 PC1, 113 PA2/PGMNOE, 114 PC2, 115 PA3/PGMNVALID, 116 PC3, 117 PA4/PGMM0, 118 PC4, 119 PA5/PGMM1, 120 PC5, 121 PA6/PGMM2, 122 PC6, 123 PA7/PGMM3, 124 PC7, 125 VDDCORE (power), 126 GND, 127 VDDIO (power), 128 PA8/PGMD0, 129 PC8, 130 PA9/PGMD1, 131 PC9, 132 PA10/PGMD2, 133 PA11/PGMD3, 134 PA12/PGMD4, 135 FWUP, 136 SHDN (out), 137 ERASE, 138 TST, 139 VDDBU (power), 140 GNDBU, 141 NRSTB, 142 JTAGSEL, 143 XOUT32 (out), 144 XIN32

## ATTINY4-TSHR
designator U?, comment Microcontroller
MPN: ATTINY4-TSHR; DESCRIPTION: Microcontroller; OC_FARNELL: 1841625; OC_NEWARK: 12T1337; PACKAGE: SOT563-6; SUPPLIER: ATMEL
footprint SOT95P280X145-6N
pins: 1 PB0, 2 GND, 3 PB1, 4 PB2, 5 VCC (power), 6 PB3

## ATTINY5-TSHR
designator U?, comment Microcontroller
MPN: ATTINY5-TSHR; DESCRIPTION: Microcontroller; OC_FARNELL: 1841626; OC_NEWARK: 12T1342; PACKAGE: SOT563-6; SUPPLIER: ATMEL
footprint SOT95P280X145-6N
pins: 1 PB0, 2 GND, 3 PB1, 4 PB2, 5 VCC (power), 6 PB3

## ATTINY9-TSHR
designator U?, comment Microcontroller
MPN: ATTINY9-TSHR; DESCRIPTION: Microcontroller; OC_FARNELL: 1841629; OC_NEWARK: 12T1345; PACKAGE: SOT563-6; SUPPLIER: ATMEL
footprint SOT95P280X145-6N
pins: 1 PB0, 2 GND, 3 PB1, 4 PB2, 5 VCC (power), 6 PB3

## ATTINY10-TSHR
designator U?, comment 8-bit Microcontroller with In-System Programmable Flash
MPN: ATTINY10-TSHR; OC_FARNELL: 1748538; OC_NEWARK: 26R5645; PACKAGE: SOT-23-6; SUPPLIER: Atmel
footprint SOT95P280X145-6N
pins: 1 PB0, 2 GND, 3 PB1, 4 PB2, 5 VCC (power), 6 PB3

## ATTINY13-20PU
designator U?, comment 8-bit MCU
MPN: ATTINY13-20PU; OC_FARNELL: 9171550; OC_NEWARK: 96K6521; PACKAGE: DIP-8; SUPPLIER: Atmel
footprint DIP254P762X533-8
pins: 1 (PCINT5/~RESET/ADC0/DW)_PB5, 2 (PCINT3/CLKI/ADC3)_PB3, 3 (PCINT4/ADC2)_PB4, 4 GND, 5 PB0_(MOSI/AIN0/OC0A/PCINT0), 6 PB1_(MISO/AIN1/OC0B/INT0/PCINT1), 7 PB2_(SCK/ADC1/T0/PCINT2), 8 VCC (power)

## ATTINY13-20SSU
designator U?, comment 8-bit Microcontroller with In-System Programmable Flash
MPN: ATTINY13-20SSU; OC_FARNELL: 1455133; OC_NEWARK: 58M3771; PACKAGE: SOIC-8; SUPPLIER: Atmel
footprint SOIC127P600X175-8N
pins: 1 PB5, 2 PB3, 3 PB4, 4 GND, 5 PB0, 6 PB1, 7 PB2, 8 VCC (power)

## ATTINY13-20SU
designator U?, comment 8-bit Microcontroller with In-System Programmable Flash
MPN: ATTINY13-20SU; OC_FARNELL: 9171568; OC_NEWARK: 96K6522; PACKAGE: SOIC-8; SUPPLIER: Atmel
footprint SOIC127P798X216-8N
pins: 1 PB5, 2 PB3, 3 PB4, 4 GND, 5 PB0, 6 PB1, 7 PB2, 8 VCC (power)

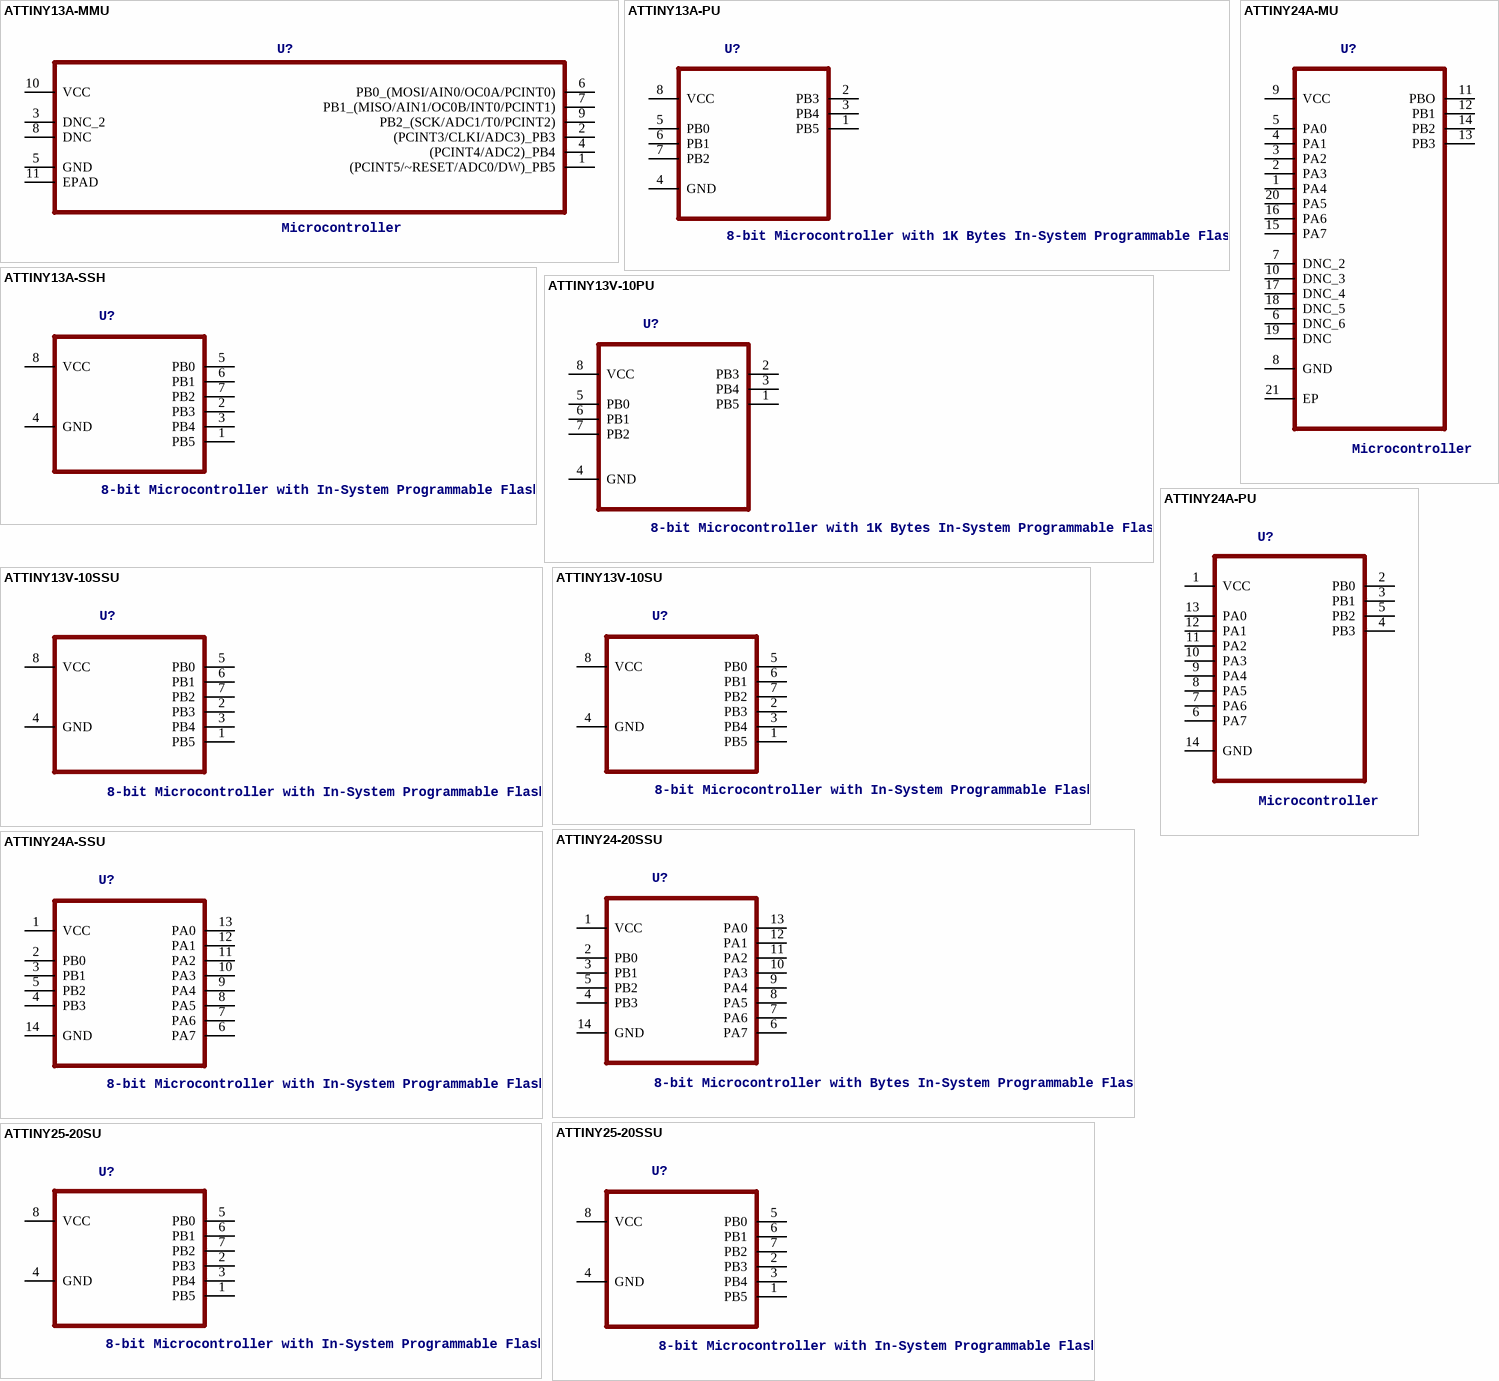
[diagram p45: symbols ATTINY13A-MMU to ATTINY25-20SU]

## ATTINY13A-MMU
designator U?, comment Microcontroller
MPN: ATTINY13A-MMU; DESCRIPTION: Microcontroller; OC_FARNELL: 1715516; OC_NEWARK: 15R0298; PACKAGE: DFN-10; SUPPLIER: ATMEL
footprint DFN300X300X100-11N
pins: 1 (PCINT5/~RESET/ADC0/DW)_PB5, 2 (PCINT3/CLKI/ADC3)_PB3, 3 DNC_2, 4 (PCINT4/ADC2)_PB4, 5 GND, 6 PB0_(MOSI/AIN0/OC0A/PCINT0), 7 PB1_(MISO/AIN1/OC0B/INT0/PCINT1), 8 DNC, 9 PB2_(SCK/ADC1/T0/PCINT2), 10 VCC (power), 11 EPAD

## ATTINY13A-PU
designator U?, comment 8-bit Microcontroller with 1K Bytes In-System Programmable Flash
MPN: ATTINY13A-PU; OC_FARNELL: 1704566; OC_NEWARK: 08R5495; PACKAGE: PDIP-8; SUPPLIER: Atmel
footprint DIP254P762X533-8
pins: 1 PB5, 2 PB3, 3 PB4, 4 GND, 5 PB0, 6 PB1, 7 PB2, 8 VCC (power)

## ATTINY13A-SSH
designator U?, comment 8-bit Microcontroller with In-System Programmable Flash
MPN: ATTINY13A-SSH; OC_FARNELL: 1715519; OC_NEWARK: 15R0301; PACKAGE: SOIC-8; SUPPLIER: Atmel
footprint SOIC127P600X175-8N
pins: 1 PB5, 2 PB3, 3 PB4, 4 GND, 5 PB0, 6 PB1, 7 PB2, 8 VCC (power)

## ATTINY13V-10PU
designator U?, comment 8-bit Microcontroller with 1K Bytes In-System Programmable Flash
MPN: ATTINY13V-10PU; OC_FARNELL: 9171576; OC_NEWARK: 96K6523; PACKAGE: PDIP-8; SUPPLIER: Atmel
footprint DIP254P762X533-8
pins: 1 PB5, 2 PB3, 3 PB4, 4 GND, 5 PB0, 6 PB1, 7 PB2, 8 VCC (power)

## ATTINY13V-10SSU
designator U?, comment 8-bit Microcontroller with In-System Programmable Flash
MPN: ATTINY13V-10SSU; OC_FARNELL: 1455135; OC_NEWARK: 58M3773; PACKAGE: SOIC-8; SUPPLIER: Atmel
footprint SOIC127P600X175-8N
pins: 1 PB5, 2 PB3, 3 PB4, 4 GND, 5 PB0, 6 PB1, 7 PB2, 8 VCC (power)

## ATTINY13V-10SU
designator U?, comment 8-bit Microcontroller with In-System Programmable Flash
MPN: ATTINY13V-10SU; OC_FARNELL: 9171584; OC_NEWARK: 96K6524; PACKAGE: SOIC-8; SUPPLIER: Atmel
footprint SOIC127P798X216-8N
pins: 1 PB5, 2 PB3, 3 PB4, 4 GND, 5 PB0, 6 PB1, 7 PB2, 8 VCC (power)

## ATTINY24-20SSU
designator U?, comment 8-bit Microcontroller with Bytes In-System Programmable Flash
MPN: ATTINY24-20SSU; OC_FARNELL: 1455137; OC_NEWARK: 58M3775; PACKAGE: SOIC-14; SUPPLIER: Atmel
footprint SOIC127P600X175-14N
pins: 1 VCC (power), 2 PB0, 3 PB1, 4 PB3, 5 PB2, 6 PA7, 7 PA6, 8 PA5, 9 PA4, 10 PA3, 11 PA2, 12 PA1, 13 PA0, 14 GND

## ATTINY24A-MU
designator U?, comment Microcontroller
MPN: ATTINY24A-MU; OC_FARNELL: 1748542; OC_NEWARK: 26R5649; PACKAGE: QFN-20; SUPPLIER: Atmel
footprint QFN50P400X400X80-21N
pins: 1 PA4, 2 PA3, 3 PA2, 4 PA1, 5 PA0, 6 DNC_6, 7 DNC_2, 8 GND, 9 VCC (power), 10 DNC_3, 11 PBO, 12 PB1, 13 PB3, 14 PB2, 15 PA7, 16 PA6, 17 DNC_4, 18 DNC_5, 19 DNC, 20 PA5, 21 EP

## ATTINY24A-PU
designator U?, comment Microcontroller
MPN: ATTINY24A-PU; OC_FARNELL: 1699394; OC_NEWARK: 80P3680; PACKAGE: PDIP-14; SUPPLIER: ATMEL
footprint DIP254P762X533-14
pins: 1 VCC (power), 2 PB0, 3 PB1, 4 PB3, 5 PB2, 6 PA7, 7 PA6, 8 PA5, 9 PA4, 10 PA3, 11 PA2, 12 PA1, 13 PA0, 14 GND

## ATTINY24A-SSU
designator U?, comment 8-bit Microcontroller with In-System Programmable Flash
MPN: ATTINY24A-SSU; OC_FARNELL: 1699395; OC_NEWARK: 80P3681; PACKAGE: SOIC-14; SUPPLIER: Atmel
footprint SOIC127P600X175-14N
pins: 1 VCC (power), 2 PB0, 3 PB1, 4 PB3, 5 PB2, 6 PA7, 7 PA6, 8 PA5, 9 PA4, 10 PA3, 11 PA2, 12 PA1, 13 PA0, 14 GND (power)

## ATTINY25-20SSU
designator U?, comment 8-bit Microcontroller with In-System Programmable Flash
MPN: ATTINY25-20SSU; OC_FARNELL: 1636951; OC_NEWARK: 03P2036; PACKAGE: SOIC-8; SUPPLIER: Atmel
footprint SOIC127P600X175-8N
pins: 1 PB5, 2 PB3, 3 PB4, 4 GND, 5 PB0, 6 PB1, 7 PB2, 8 VCC (power)

## ATTINY25-20SU
designator U?, comment 8-bit Microcontroller with In-System Programmable Flash
MPN: ATTINY25-20SU; OC_FARNELL: 1455143; OC_NEWARK: 58M3779; PACKAGE: SOIC-8; SUPPLIER: Atmel
footprint SOIC127P798X216-8N
pins: 1 PB5, 2 PB3, 3 PB4, 4 GND, 5 PB0, 6 PB1, 7 PB2, 8 VCC (power)

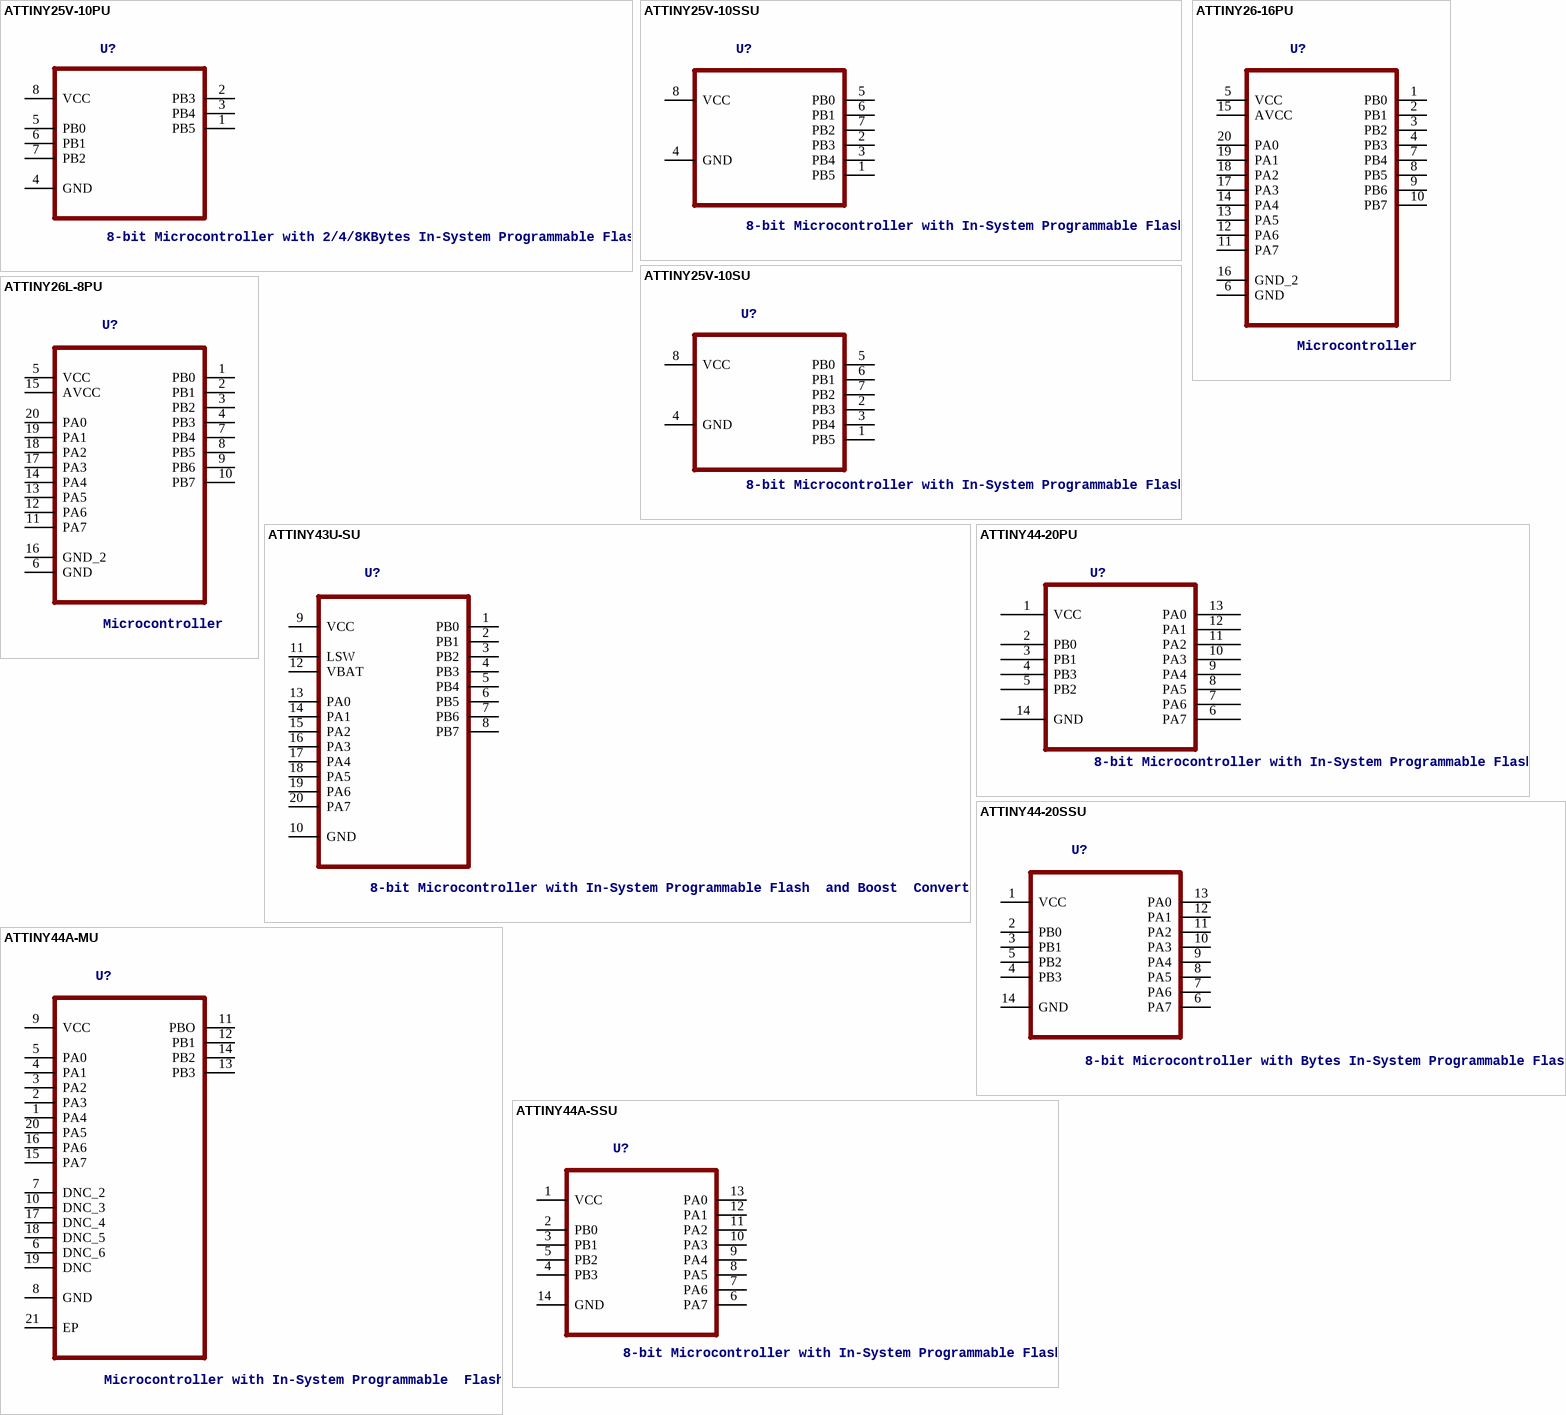
[diagram p46: symbols ATTINY25V-10PU to ATTINY44A-SSU]

## ATTINY25V-10PU
designator U?, comment 8-bit Microcontroller with 2/4/8KBytes In-System Programmable Flash
MPN: ATTINY25V-10PU; OC_FARNELL: 1455144; OC_NEWARK: 58M3780; PACKAGE: PDIP-8; SUPPLIER: Atmel
footprint DIP254P762X533-8
pins: 1 PB5, 2 PB3, 3 PB4, 4 GND, 5 PB0, 6 PB1, 7 PB2, 8 VCC (power)

## ATTINY25V-10SSU
designator U?, comment 8-bit Microcontroller with In-System Programmable Flash
MPN: ATTINY25V-10SSU; OC_FARNELL: 1636952; OC_NEWARK: 03P2037; PACKAGE: SOIC-8; SUPPLIER: Atmel
footprint SOIC127P600X175-8N
pins: 1 PB5, 2 PB3, 3 PB4, 4 GND, 5 PB0, 6 PB1, 7 PB2, 8 VCC (power)

## ATTINY25V-10SU
designator U?, comment 8-bit Microcontroller with In-System Programmable Flash
MPN: ATTINY25V-10SU; OC_FARNELL: 1455145; OC_NEWARK: 58M3781; PACKAGE: SOIC-8; SUPPLIER: Atmel
footprint SOIC127P798X216-8N
pins: 1 PB5, 2 PB3, 3 PB4, 4 GND, 5 PB0, 6 PB1, 7 PB2, 8 VCC (power)

## ATTINY26-16PU
designator U?, comment Microcontroller
MPN: ATTINY26-16PU; OC_FARNELL: 9171630; OC_NEWARK: 01M6918; PACKAGE: DIP-20; SUPPLIER: ATMEL
footprint DIP254P762X533-20
pins: 1 PB0, 2 PB1, 3 PB2, 4 PB3, 5 VCC (power), 6 GND, 7 PB4, 8 PB5, 9 PB6, 10 PB7, 11 PA7, 12 PA6, 13 PA5, 14 PA4, 15 AVCC (power), 16 GND_2, 17 PA3, 18 PA2, 19 PA1, 20 PA0

## ATTINY26L-8PU
designator U?, comment Microcontroller
MPN: ATTINY26L-8PU; OC_FARNELL: 9171657; OC_NEWARK: 01M6920; PACKAGE: DIP-20; SUPPLIER: ATMEL
footprint DIP254P762X533-20
pins: 1 PB0, 2 PB1, 3 PB2, 4 PB3, 5 VCC (power), 6 GND, 7 PB4, 8 PB5, 9 PB6, 10 PB7, 11 PA7, 12 PA6, 13 PA5, 14 PA4, 15 AVCC (power), 16 GND_2, 17 PA3, 18 PA2, 19 PA1, 20 PA0

## ATTINY43U-SU
designator U?, comment 8-bit Microcontroller with In-System Programmable Flash  and Boost  Converter
MPN: ATTINY43U-SU; OC_FARNELL: 1841623; OC_NEWARK: 12T1338; PACKAGE: SOIC-20; SUPPLIER: Atmel
footprint SOIC127P1032X265-20N
pins: 1 PB0, 2 PB1, 3 PB2, 4 PB3, 5 PB4, 6 PB5, 7 PB6, 8 PB7, 9 VCC (power), 10 GND, 11 LSW, 12 VBAT, 13 PA0, 14 PA1, 15 PA2, 16 PA3, 17 PA4, 18 PA5, 19 PA6, 20 PA7

## ATTINY44-20PU
designator U?, comment 8-bit Microcontroller with In-System Programmable Flash
MPN: ATTINY44-20PU; OC_FARNELL: 1455150; OC_NEWARK: 58M3786; PACKAGE: PDIP-14; SUPPLIER: Atmel
footprint DIP254P762X533-14
pins: 1 VCC (power), 2 PB0, 3 PB1, 4 PB3, 5 PB2, 6 PA7, 7 PA6, 8 PA5, 9 PA4, 10 PA3, 11 PA2, 12 PA1, 13 PA0, 14 GND

## ATTINY44-20SSU
designator U?, comment 8-bit Microcontroller with Bytes In-System Programmable Flash
MPN: ATTINY44-20SSU; OC_FARNELL: 1455152; OC_NEWARK: 58M3787; PACKAGE: SOIC-14; SUPPLIER: Atmel
footprint SOIC127P600X175-14N
pins: 1 VCC (power), 2 PB0, 3 PB1, 4 PB3, 5 PB2, 6 PA7, 7 PA6, 8 PA5, 9 PA4, 10 PA3, 11 PA2, 12 PA1, 13 PA0, 14 GND

## ATTINY44A-MU
designator U?, comment Microcontroller with In-System Programmable  Flash
MPN: ATTINY44A-MU; OC_FARNELL: 1748545; OC_NEWARK: 26R5651; PACKAGE: QFN-20; SUPPLIER: Atmel
footprint QFN50P400X400X80-21N
pins: 1 PA4, 2 PA3, 3 PA2, 4 PA1, 5 PA0, 6 DNC_6, 7 DNC_2, 8 GND, 9 VCC (power), 10 DNC_3, 11 PBO, 12 PB1, 13 PB3, 14 PB2, 15 PA7, 16 PA6, 17 DNC_4, 18 DNC_5, 19 DNC, 20 PA5, 21 EP

## ATTINY44A-SSU
designator U?, comment 8-bit Microcontroller with In-System Programmable Flash
MPN: ATTINY44A-SSU; OC_FARNELL: 1699397; OC_NEWARK: 80P3683; PACKAGE: SOIC-14; SUPPLIER: Atmel
footprint SOIC127P600X175-14N
pins: 1 VCC (power), 2 PB0, 3 PB1, 4 PB3, 5 PB2, 6 PA7, 7 PA6, 8 PA5, 9 PA4, 10 PA3, 11 PA2, 12 PA1, 13 PA0, 14 GND (power)

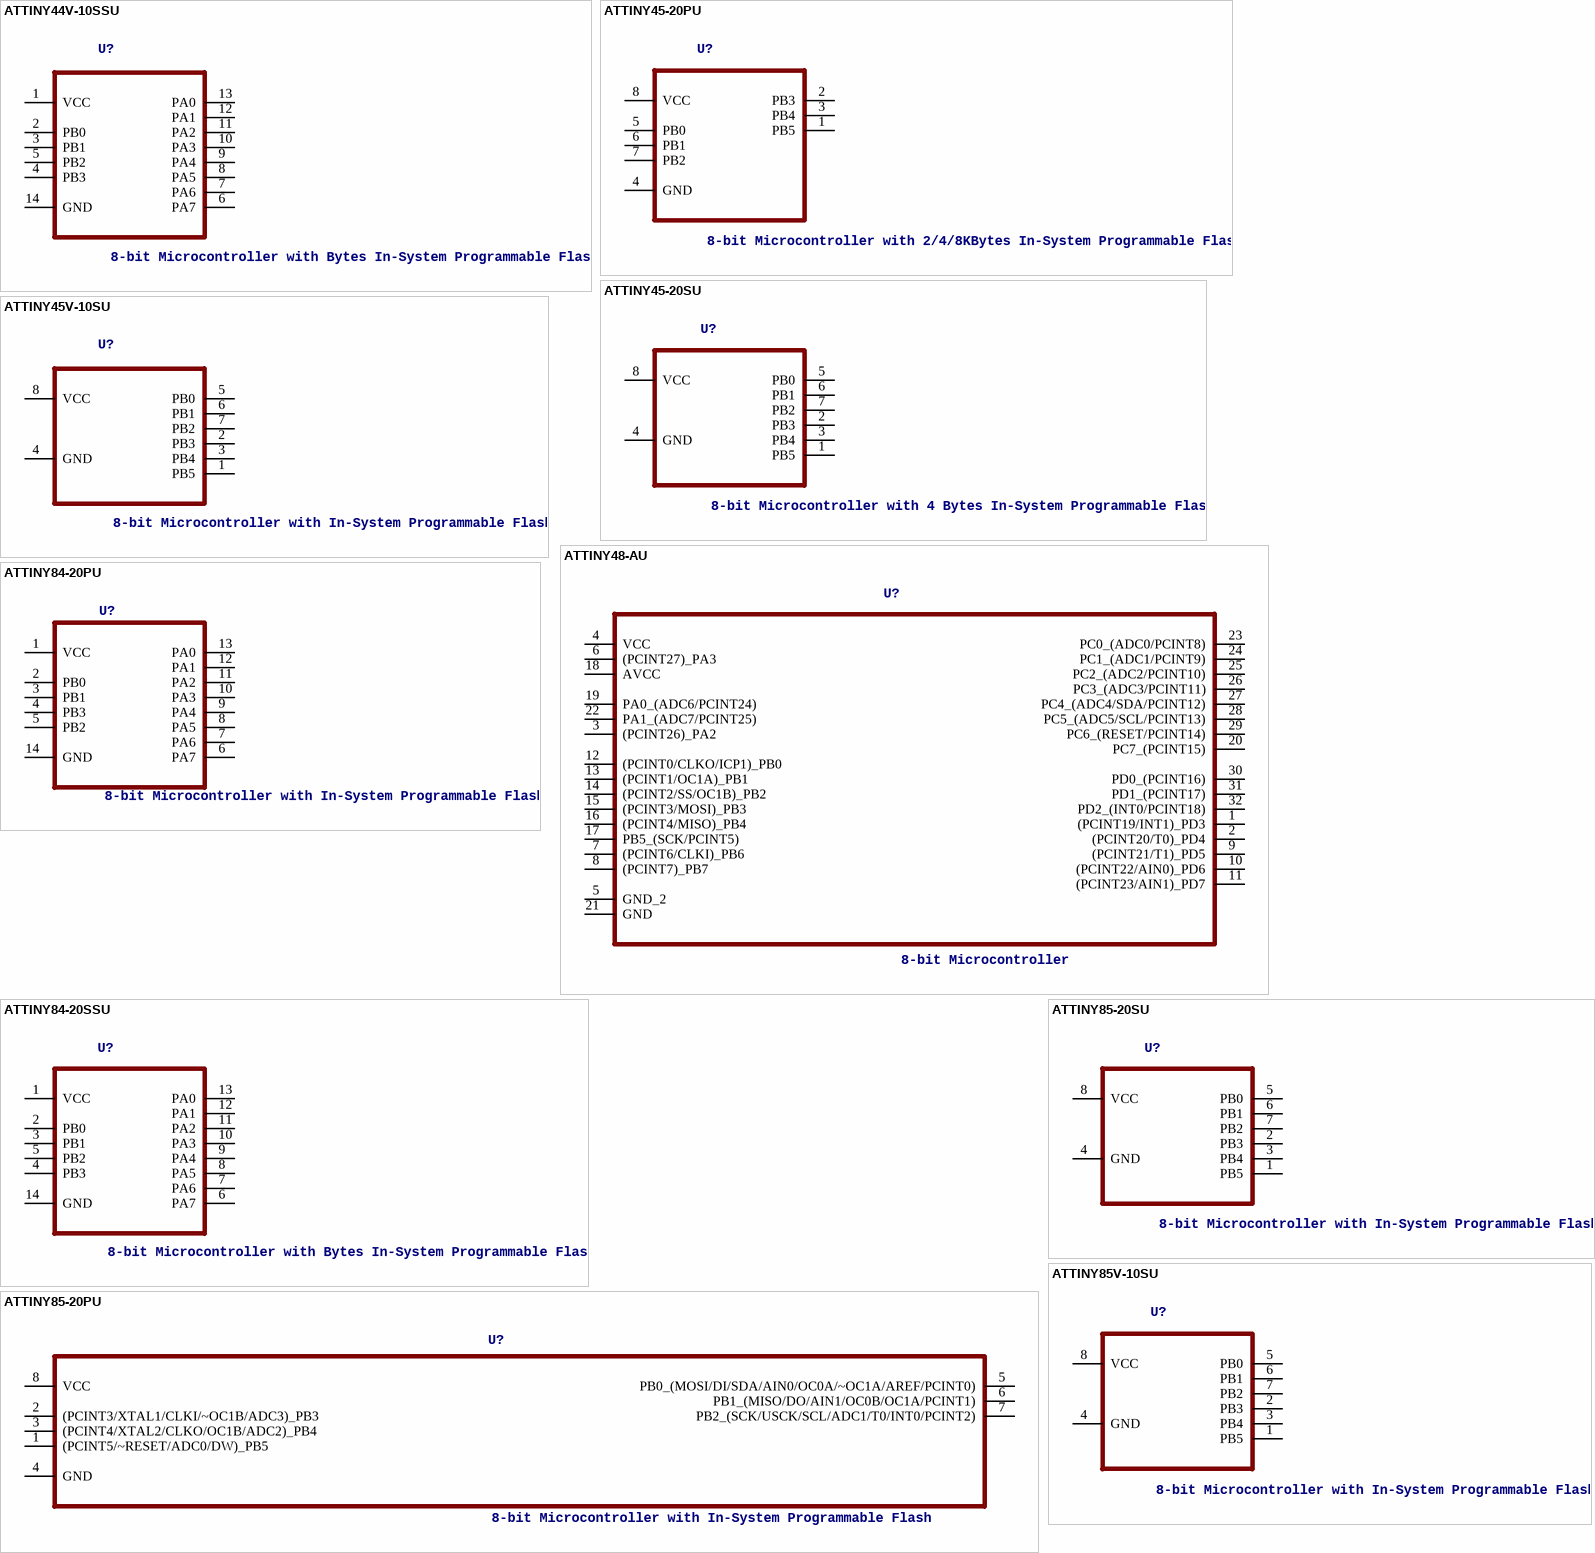
[diagram p47: symbols ATTINY44V-10SSU to ATTINY85V-10SU]

## ATTINY44V-10SSU
designator U?, comment 8-bit Microcontroller with Bytes In-System Programmable Flash
MPN: ATTINY44V-10SSU; OC_FARNELL: 1455154; OC_NEWARK: 58M3789; PACKAGE: SOIC-14; SUPPLIER: Atmel
footprint SOIC127P600X175-14N
pins: 1 VCC (power), 2 PB0, 3 PB1, 4 PB3, 5 PB2, 6 PA7, 7 PA6, 8 PA5, 9 PA4, 10 PA3, 11 PA2, 12 PA1, 13 PA0, 14 GND

## ATTINY45-20PU
designator U?, comment 8-bit Microcontroller with 2/4/8KBytes In-System Programmable Flash
MPN: ATTINY45-20PU; OC_FARNELL: 1288352; OC_NEWARK: 23M5072; PACKAGE: PDIP-8; SUPPLIER: Atmel
footprint DIP254P762X533-8
pins: 1 PB5, 2 PB3, 3 PB4, 4 GND, 5 PB0, 6 PB1, 7 PB2, 8 VCC (power)